# Altium schematic symbol library ICs_Control.SchLib: 37 symbols (part 4 of 6)
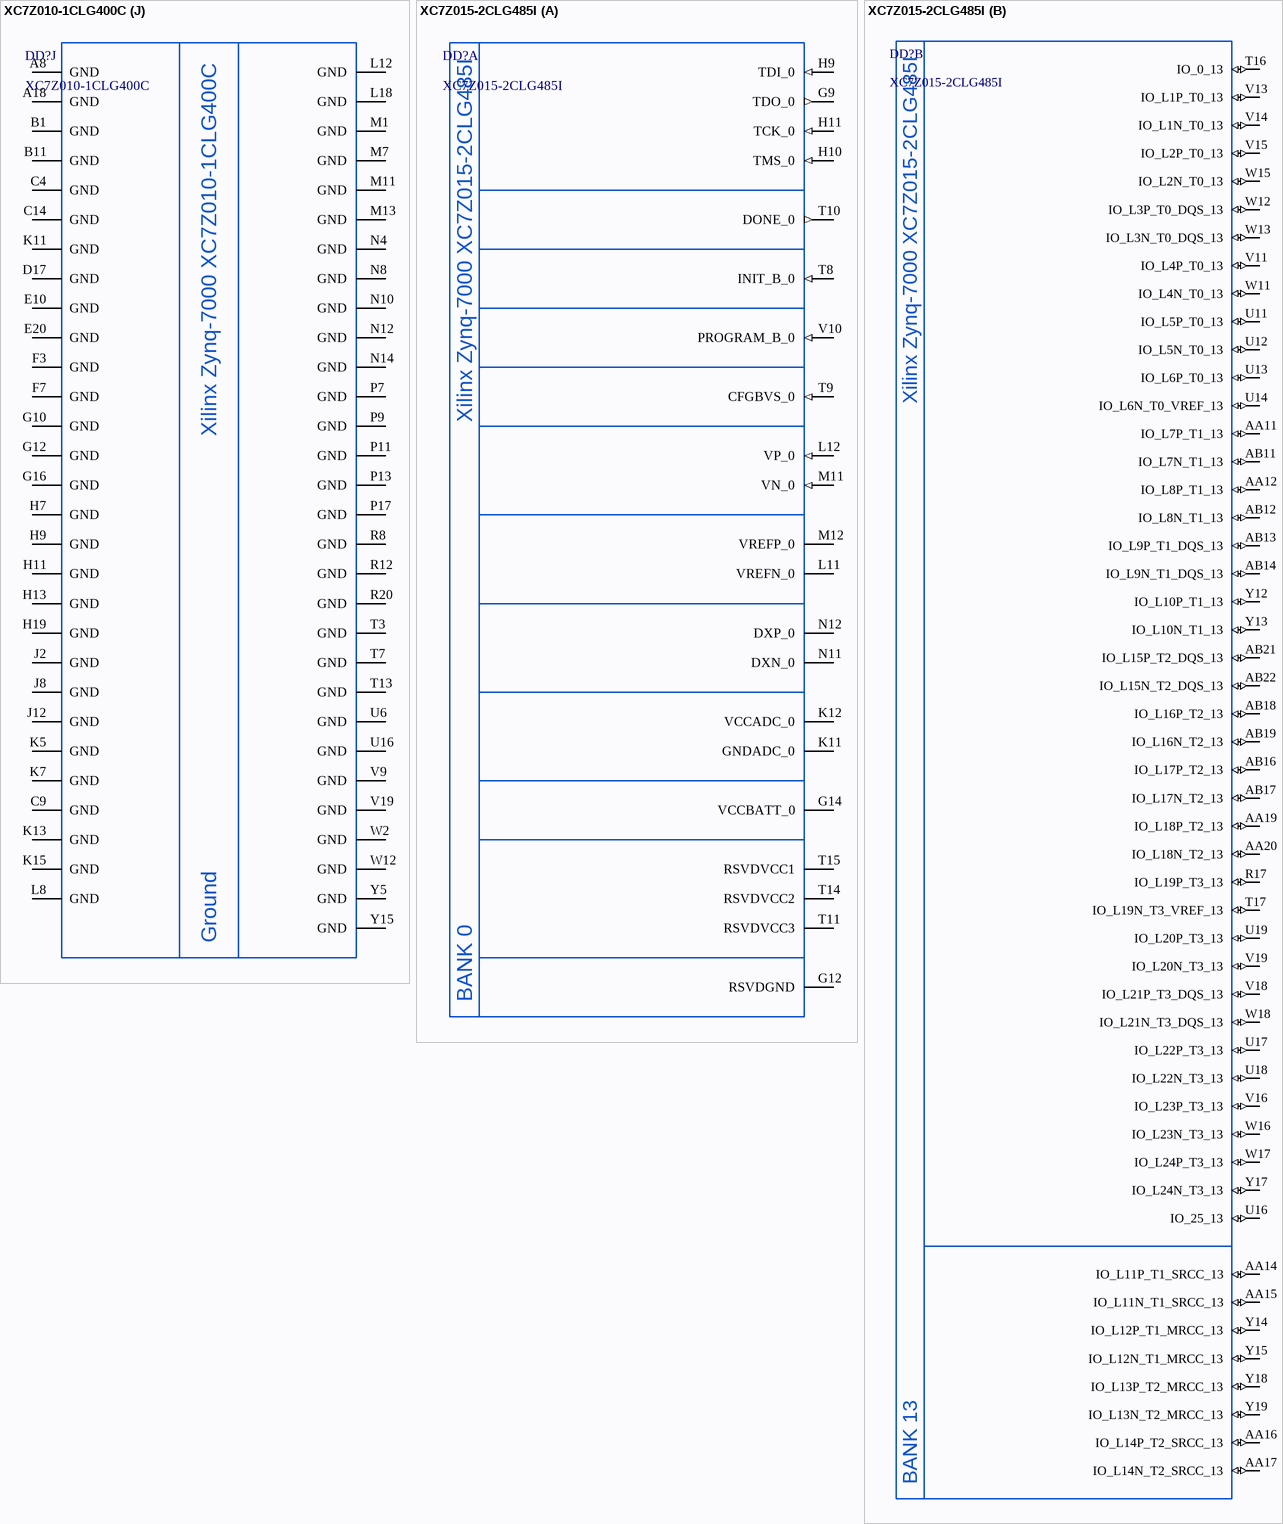
[diagram p80: symbols XC7Z010-1CLG400C to XC7Z015-2CLG485I]

## XC7Z010-1CLG400C
designator DD?
Zynq-7000 Series SoC, Speed Grade 1; Manufacturer: Xilinx; Speed Grade: -1; ItemType: IC; Package: CSPBGA-400; PartNumber: XC7Z010-1CLG400C; Marking: XC7Z010; ItemSubType: SoC; Mounting: SMD
footprint CLG400_XC7Z010 (CLG400 Package for Zynq-7000 Series SoC)
part A pins: F6 TDO_0 (out), F9 TCK_0 (in), F10 RSVDGND, F11 VCCBATT_0 (power), G6 TDI_0 (in), J6 TMS_0 (in), J9 VCCADC_0 (power), J10 GNDADC_0, K9 VP_0 (in), K10 VREFN_0, L6 PROGRAM_B_0 (in), L9 VREFP_0, L10 VN_0 (in), M6 CFGBVS_0 (in), M9 DXP_0, M10 DXN_0, N6 RSVDVCC3 (power), R6 RSVDVCC2 (power), R10 INIT_B_0 (in), R11 DONE_0 (out), T6 RSVDVCC1 (power)
part B pins: T5 NC (hiz), T9 NC (hiz), U5 NC (hiz), U7 NC (hiz), U8 NC (hiz), U9 NC (hiz), U10 NC (hiz), V5 NC (hiz), V6 NC (hiz), V7 NC (hiz), V8 NC (hiz), V10 NC (hiz), V11 NC (hiz), W6 NC (hiz), W8 NC (hiz), W9 NC (hiz), W10 NC (hiz), W11 NC (hiz), Y6 NC (hiz), Y7 NC (hiz), Y8 NC (hiz), Y9 NC (hiz), Y11 NC (hiz), Y12 NC (hiz), Y13 NC (hiz)
part C pins: N17 IO_L23P_T3_34 (io), N18 IO_L13P_T2_MRCC_34 (io), N20 IO_L14P_T2_SRCC_34 (io), P14 IO_L6P_T0_34 (io), P15 IO_L24P_T3_34 (io), P16 IO_L24N_T3_34 (io), P18 IO_L23N_T3_34 (io), P19 IO_L13N_T2_MRCC_34 (io), P20 IO_L14N_T2_SRCC_34 (io), R14 IO_L6N_T0_VREF_34 (io), R16 IO_L19P_T3_34 (io), R17 IO_L19N_T3_VREF_34 (io), R18 IO_L20N_T3_34 (io), R19 IO_0_34 (io), T10 IO_L1N_T0_34 (io), T11 IO_L1P_T0_34 (io), T12 IO_L2P_T0_34 (io), T14 IO_L5P_T0_34 (io), T15 IO_L5N_T0_34 (io), T16 IO_L9P_T1_DQS_34 (io), T17 IO_L20P_T3_34 (io), T19 IO_25_34 (io), T20 IO_L15P_T2_DQS_34 (io), U12 IO_L2N_T0_34 (io), U13 IO_L3P_T0_DQS_PUDC_B_34 (io), U14 IO_L11P_T1_SRCC_34 (io), U15 IO_L11N_T1_SRCC_34 (io), U17 IO_L9N_T1_DQS_34 (io), U18 IO_L12P_T1_MRCC_34 (io), U19 IO_L12N_T1_MRCC_34 (io), U20 IO_L15N_T2_DQS_34 (io), V12 IO_L4P_T0_34 (io), V13 IO_L3N_T0_DQS_34 (io), V15 IO_L10P_T1_34 (io), V16 IO_L18P_T2_34 (io), V17 IO_L21P_T3_DQS_34 (io), V18 IO_L21N_T3_DQS_34 (io), V20 IO_L16P_T2_34 (io), W13 IO_L4N_T0_34 (io), W14 IO_L8P_T1_34 (io), W15 IO_L10N_T1_34 (io), W16 IO_L18N_T2_34 (io), W18 IO_L22P_T3_34 (io), W19 IO_L22N_T3_34 (io), W20 IO_L16N_T2_34 (io), Y14 IO_L8N_T1_34 (io), Y16 IO_L7P_T1_34 (io), Y17 IO_L7N_T1_34 (io), Y18 IO_L17P_T2_34 (io), Y19 IO_L17N_T2_34 (io)
part D pins: A20 IO_L2N_T0_AD8N_35 (io), B19 IO_L2P_T0_AD8P_35 (io), B20 IO_L1N_T0_AD0N_35 (io), C20 IO_L1P_T0_AD0P_35 (io), D18 IO_L3N_T0_DQS_AD1N_35 (io), D19 IO_L4P_T0_35 (io), D20 IO_L4N_T0_35 (io), E17 IO_L3P_T0_DQS_AD1P_35 (io), E18 IO_L5P_T0_AD9P_35 (io), E19 IO_L5N_T0_AD9N_35 (io), F16 IO_L6P_T0_35 (io), F17 IO_L6N_T0_VREF_35 (io), F19 IO_L15P_T2_DQS_AD12P_35 (io), F20 IO_L15N_T2_DQS_AD12N_35 (io), G14 IO_0_35 (io), G15 IO_L19N_T3_VREF_35 (io), G17 IO_L16P_T2_35 (io), G18 IO_L16N_T2_35 (io), G19 IO_L18P_T2_AD13P_35 (io), G20 IO_L18N_T2_AD13N_35 (io), H15 IO_L19P_T3_35 (io), H16 IO_L13P_T2_MRCC_35 (io), H17 IO_L13N_T2_MRCC_35 (io), H18 IO_L14N_T2_AD4N_SRCC_35 (io), H20 IO_L17N_T2_AD5N_35 (io), J14 IO_L20N_T3_AD6N_35 (io), J15 IO_25_35 (io), J16 IO_L24N_T3_AD15N_35 (io), J18 IO_L14P_T2_AD4P_SRCC_35 (io), J19 IO_L10N_T1_AD11N_35 (io), J20 IO_L17P_T2_AD5P_35 (io), K14 IO_L20P_T3_AD6P_35 (io), K16 IO_L24P_T3_AD15P_35 (io), K17 IO_L12P_T1_MRCC_35 (io), K18 IO_L12N_T1_MRCC_35 (io), K19 IO_L10P_T1_AD11P_35 (io), L14 IO_L22P_T3_AD7P_35 (io), L15 IO_L22N_T3_AD7N_35 (io), L16 IO_L11P_T1_SRCC_35 (io), L17 IO_L11N_T1_SRCC_35 (io), L19 IO_L9P_T1_DQS_AD3P_35 (io), L20 IO_L9N_T1_DQS_AD3N_35 (io), M14 IO_L23P_T3_35 (io), M15 IO_L23N_T3_35 (io), M17 IO_L8P_T1_AD10P_35 (io), M18 IO_L8N_T1_AD10N_35 (io), M19 IO_L7P_T1_AD2P_35 (io), M20 IO_L7N_T1_AD2N_35 (io), N15 IO_L21P_T3_DQS_AD14P_35 (io), N16 IO_L21N_T3_DQS_AD14N_35 (io)
part E pins: A5 PS_MIO6_500 (io), A6 PS_MIO5_500 (io), A7 PS_MIO1_500 (io), B5 PS_MIO9_500 (io), B7 PS_MIO4_500 (io), B8 PS_MIO2_500 (io), C5 PS_MIO14_500 (io), C6 PS_MIO11_500 (io), C7 PS_POR_B_500 (out), C8 PS_MIO15_500 (io), D5 PS_MIO8_500 (io), D6 PS_MIO3_500 (io), D8 PS_MIO7_500 (io), D9 PS_MIO12_500 (io), E6 PS_MIO0_500 (io), E7 PS_CLK_500 (in), E8 PS_MIO13_500 (io), E9 PS_MIO10_500 (io)
part F pins: A9 PS_MIO43_501 (io), A10 PS_MIO37_501 (io), A11 PS_MIO36_501 (io), A12 PS_MIO34_501 (io), A14 PS_MIO32_501 (io), A15 PS_MIO26_501 (io), A16 PS_MIO24_501 (io), A17 PS_MIO20_501 (io), A19 PS_MIO16_501 (io), B9 PS_MIO51_501 (io), B10 PS_SRST_B_501 (in), B12 PS_MIO48_501 (io), B13 PS_MIO50_501 (io), B14 PS_MIO47_501 (io), B15 PS_MIO45_501 (io), B17 PS_MIO22_501 (io), B18 PS_MIO18_501 (io), C10 PS_MIO52_501 (io), C11 PS_MIO53_501 (io), C12 PS_MIO49_501 (io), C13 PS_MIO29_501 (io), C15 PS_MIO30_501 (io), C16 PS_MIO28_501 (io), C17 PS_MIO41_501 (io), C18 PS_MIO39_501 (io), D10 PS_MIO19_501 (io), D11 PS_MIO23_501 (io), D13 PS_MIO27_501 (io), D14 PS_MIO40_501 (io), D15 PS_MIO33_501 (io), D16 PS_MIO46_501 (io), E11 PS_MIO_VREF_501, E12 PS_MIO42_501 (io), E13 PS_MIO38_501 (io), E14 PS_MIO17_501 (io), E16 PS_MIO31_501 (io), F12 PS_MIO35_501 (io), F13 PS_MIO44_501 (io), F14 PS_MIO21_501 (io), F15 PS_MIO25_501 (io)
part G pins: A2 PS_DDR_DQ2_502 (io), A4 PS_DDR_DQ3_502 (io), B2 PS_DDR_DQS_N0_502 (io), B3 PS_DDR_DQ1_502 (io), C1 PS_DDR_DQ6_502 (io), C2 PS_DDR_DQS_P0_502 (io), C3 PS_DDR_DQ0_502 (io), D1 PS_DDR_DQ5_502 (io), D3 PS_DDR_DQ4_502 (io), E1 PS_DDR_DQ7_502 (io), E2 PS_DDR_DQ8_502 (io), E3 PS_DDR_DQ9_502 (io), F2 PS_DDR_DQS_N1_502 (io), G2 PS_DDR_DQS_P1_502 (io), G3 PS_DDR_DQ10_502 (io), H1 PS_DDR_DQ14_502 (io), H2 PS_DDR_DQ13_502 (io), H3 PS_DDR_DQ11_502 (io), J1 PS_DDR_DQ15_502 (io), J3 PS_DDR_DQ12_502 (io), P1 PS_DDR_DQ16_502 (io), P3 PS_DDR_DQ17_502 (io), R1 PS_DDR_DQ19_502 (io), R2 PS_DDR_DQS_P2_502 (io), R3 PS_DDR_DQ18_502 (io), T2 PS_DDR_DQS_N2_502 (io), T4 PS_DDR_DQ20_502 (io), U2 PS_DDR_DQ22_502 (io), U3 PS_DDR_DQ23_502 (io), U4 PS_DDR_DQ21_502 (io), V1 PS_DDR_DQ24_502 (io), V2 PS_DDR_DQ30_502 (io), V3 PS_DDR_DQ31_502 (io), W1 PS_DDR_DQ26_502 (io), W3 PS_DDR_DQ29_502 (io), W4 PS_DDR_DQS_N3_502 (io), W5 PS_DDR_DQS_P3_502 (io), Y2 PS_DDR_DQ28_502 (io), Y3 PS_DDR_DQ25_502 (io), Y4 PS_DDR_DQ27_502 (io)
part H pins: A1 PS_DDR_DM0_502 (io), B4 PS_DDR_DRST_B_502 (io), D4 PS_DDR_A13_502 (io), E4 PS_DDR_A12_502 (io), F1 PS_DDR_DM1_502 (io), F4 PS_DDR_A14_502 (io), F5 PS_DDR_A10_502 (io), G4 PS_DDR_A11_502 (io), G5 PS_DDR_VRN_502 (io), H5 PS_DDR_VRP_502 (io), H6 PS_DDR_VREF0_502, J4 PS_DDR_A9_502 (io), J5 PS_DDR_BA2_502 (io), K1 PS_DDR_A8_502 (io), K2 PS_DDR_A1_502 (io), K3 PS_DDR_A3_502 (io), K4 PS_DDR_A7_502 (io), L1 PS_DDR_A5_502 (io), L2 PS_DDR_CKP_502 (io), L4 PS_DDR_A6_502 (io), L5 PS_DDR_BA0_502 (io), M2 PS_DDR_CKN_502 (io), M3 PS_DDR_A2_502 (io), M4 PS_DDR_A4_502 (io), M5 PS_DDR_WE_B_502 (io), N1 PS_DDR_CS_B_502 (io), N2 PS_DDR_A0_502 (io), N3 PS_DDR_CKE_502 (io), N5 PS_DDR_ODT_502 (io), P4 PS_DDR_RAS_B_502 (io), P5 PS_DDR_CAS_B_502 (io), P6 PS_DDR_VREF1_502, R4 PS_DDR_BA1_502 (io), T1 PS_DDR_DM2_502 (io), Y1 PS_DDR_DM3_502 (io)
part I pins: A3 VCCO_DDR_502 (power), A13 VCCO_MIO1_501 (power), B6 VCCO_MIO0_500 (power), B16 VCCO_MIO1_501 (power), C19 VCCO_35 (power), D2 VCCO_DDR_502 (power), D7 VCCO_MIO0_500 (power), D12 VCCO_MIO1_501 (power), E5 VCCO_DDR_502 (power), E15 VCCO_MIO1_501 (power), F8 VCCPAUX (power), F18 VCCO_35 (power), G1 VCCO_DDR_502 (power), G7 VCCPINT (power), G8 VCCPLL (power), G9 VCCPAUX (power), G11 VCCBRAM (power), G13 VCCINT (power), H4 VCCO_DDR_502 (power), H8 VCCPAUX (power), H10 VCCBRAM (power), H12 VCCINT (power), H14 VCCO_35 (power), J7 VCCPINT (power), J11 VCCAUX (power), J13 VCCINT (power), J17 VCCO_35 (power), K6 VCCO_0 (power), K8 VCCPAUX (power), K12 VCCINT (power), K20 VCCO_35 (power), L3 VCCO_DDR_502 (power), L7 VCCPINT (power), L11 VCCAUX (power), L13 VCCINT (power), M8 VCCPAUX (power), M12 VCCINT (power), M16 VCCO_35 (power), N7 VCCPINT (power), N9 VCCAUX (power), N11 VCCAUX (power), N13 VCCINT (power), N19 VCCO_34 (power), P2 VCCO_DDR_502 (power), P8 VCCPINT (power), P10 VCCAUX (power), P12 VCCINT (power), R5 VCCO_DDR_502 (power), R7 VCCPINT (power), R9 VCCAUX (power), R13 VCCINT (power), R15 VCCO_34 (power), T8 VCCO_13 (power), T18 VCCO_34 (power), U1 VCCO_DDR_502 (power), U11 VCCO_13 (power), V4 VCCO_DDR_502 (power), V14 VCCO_34 (power), W7 VCCO_13 (power), W17 VCCO_34 (power), Y10 VCCO_13 (power), Y20 VCCO_34 (power)
part J pins: A8 GND, A18 GND, B1 GND, B11 GND, C4 GND, C9 GND, C14 GND, D17 GND, E10 GND, E20 GND, F3 GND, F7 GND, G10 GND, G12 GND, G16 GND, H7 GND, H9 GND, H11 GND, H13 GND, H19 GND, J2 GND, J8 GND, J12 GND, K5 GND, K7 GND, K11 GND, K13 GND, K15 GND, L8 GND, L12 GND, L18 GND, M1 GND, M7 GND, M11 GND, M13 GND, N4 GND, N8 GND, N10 GND, N12 GND, N14 GND, P7 GND, P9 GND, P11 GND, P13 GND, P17 GND, R8 GND, R12 GND, R20 GND, T3 GND, T7 GND, T13 GND, U6 GND, U16 GND, V9 GND, V19 GND, W2 GND, W12 GND, Y5 GND, Y15 GND
part A text: Xilinx Zynq-7000 XC7Z010-1CLG400C; BANK 0
part B text: Xilinx Zynq-7000 XC7Z010-1CLG400C; Not Connected Pins
part C text: Xilinx Zynq-7000 XC7Z010-1CLG400C; BANK 34
part D text: Xilinx Zynq-7000 XC7Z010-1CLG400C; BANK 35
part E text: Xilinx Zynq-7000 XC7Z010-1CLG400C; BANK 500
part F text: Xilinx Zynq-7000 XC7Z010-1CLG400C; BANK 501
part G text: Xilinx Zynq-7000 XC7Z010-1CLG400C; BANK 502
part H text: Xilinx Zynq-7000 XC7Z010-1CLG400C; BANK 502
part I text: PL/XADC Power; PS Power; Xilinx Zynq-7000 XC7Z010-1CLG400C; Power
part J text: Xilinx Zynq-7000 XC7Z010-1CLG400C; Ground

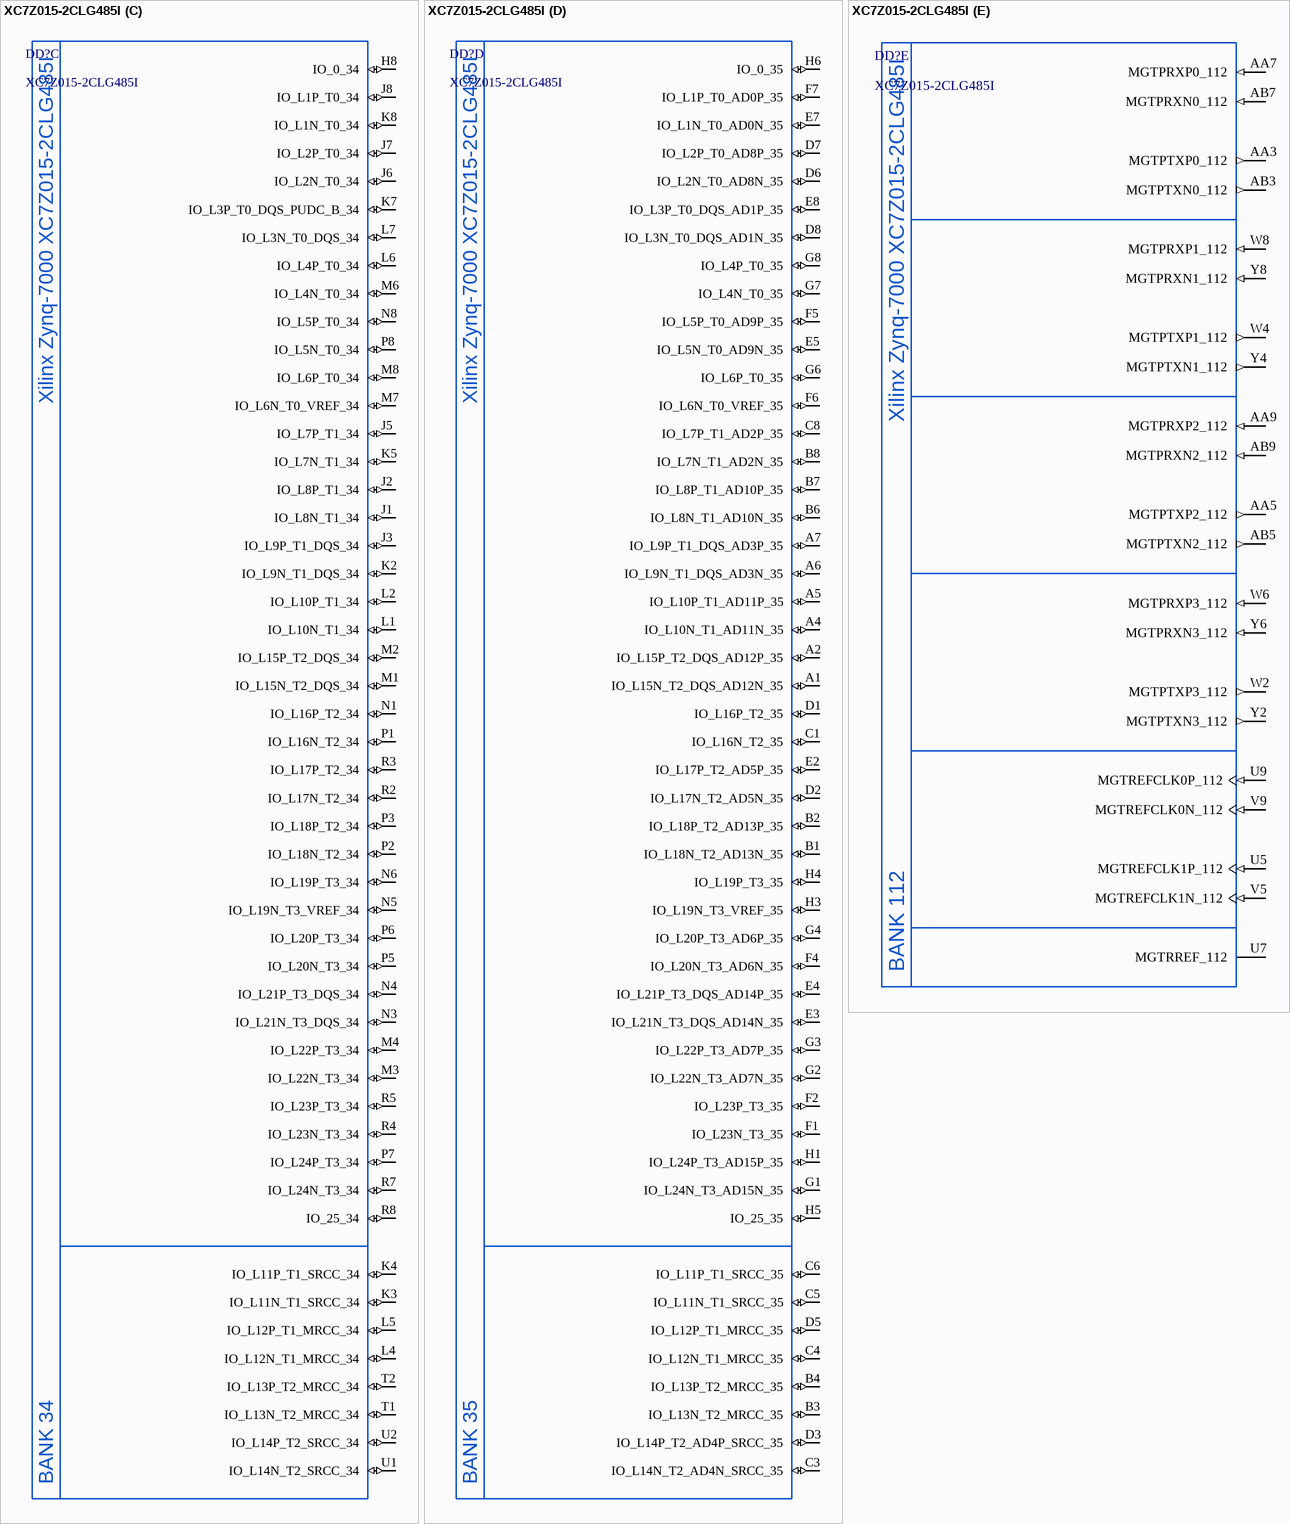
[diagram p43: symbol XC7Z015-2CLG485I]

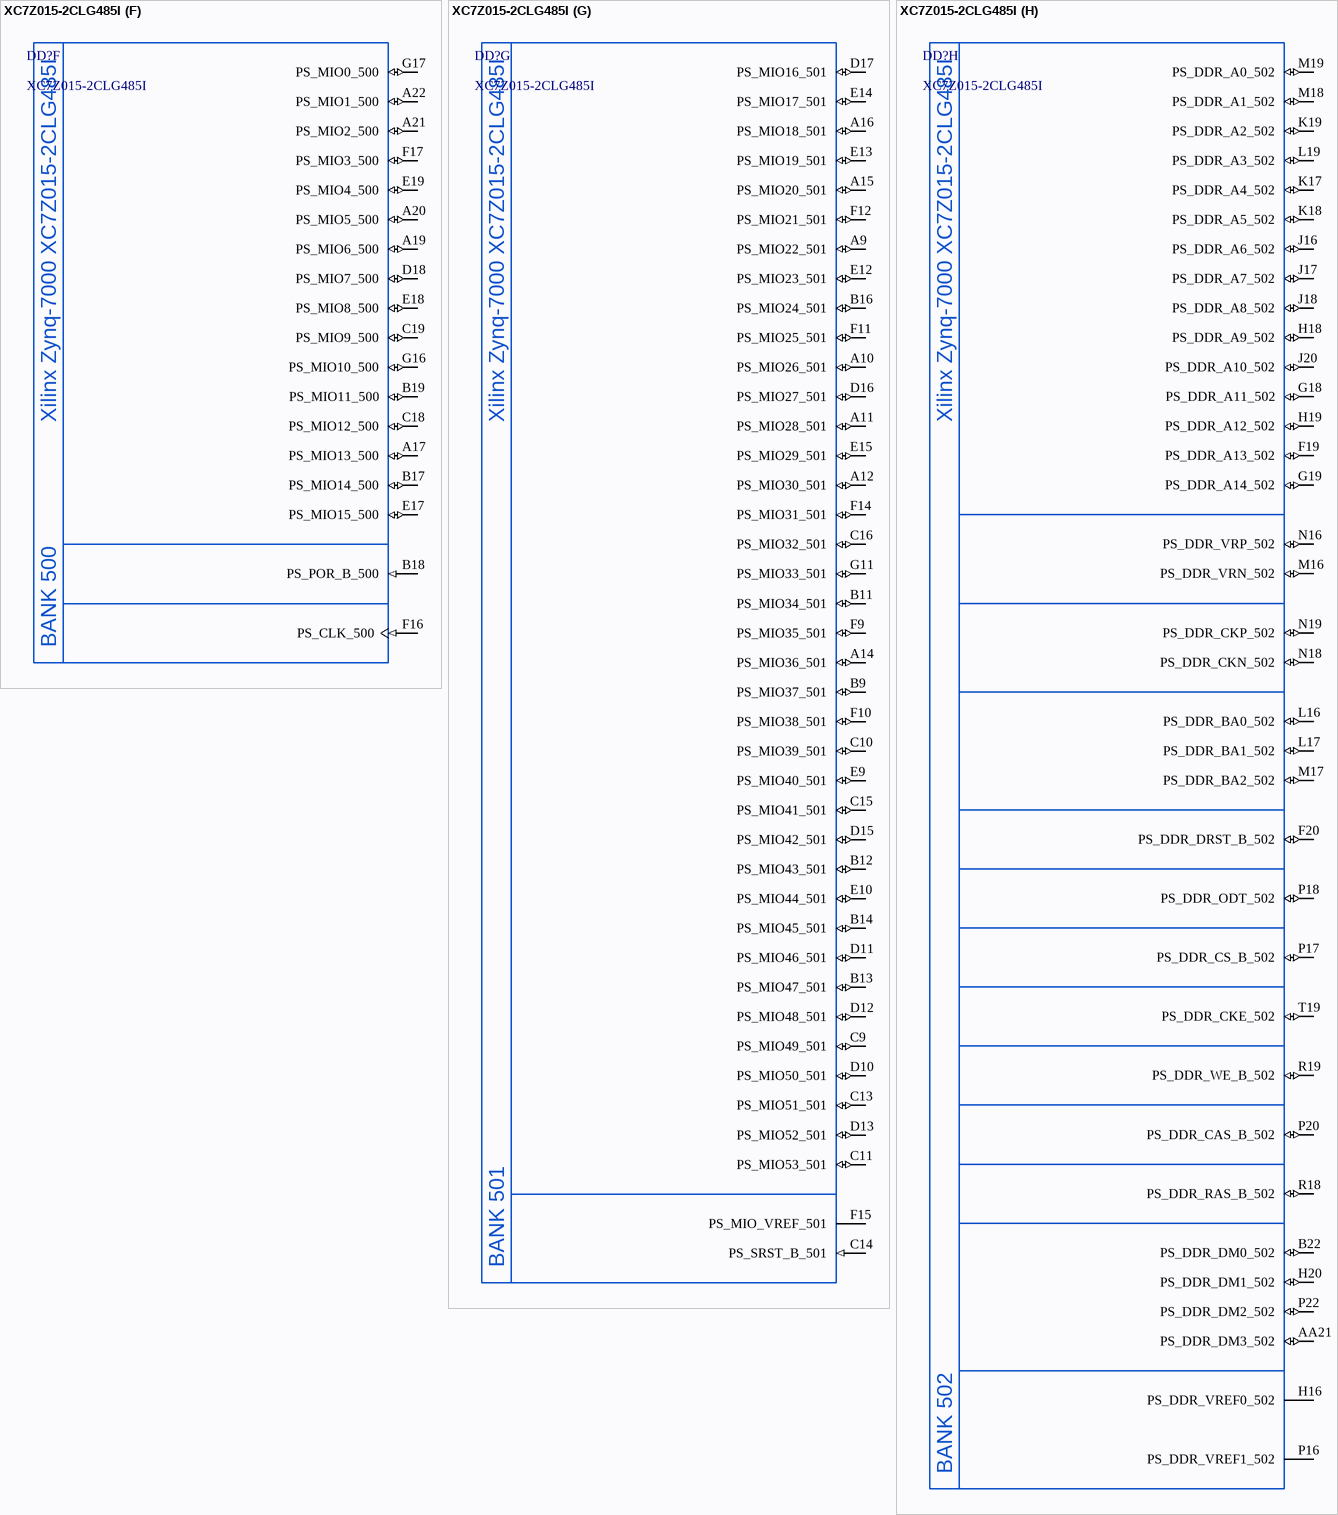
[diagram p44: symbol XC7Z015-2CLG485I]

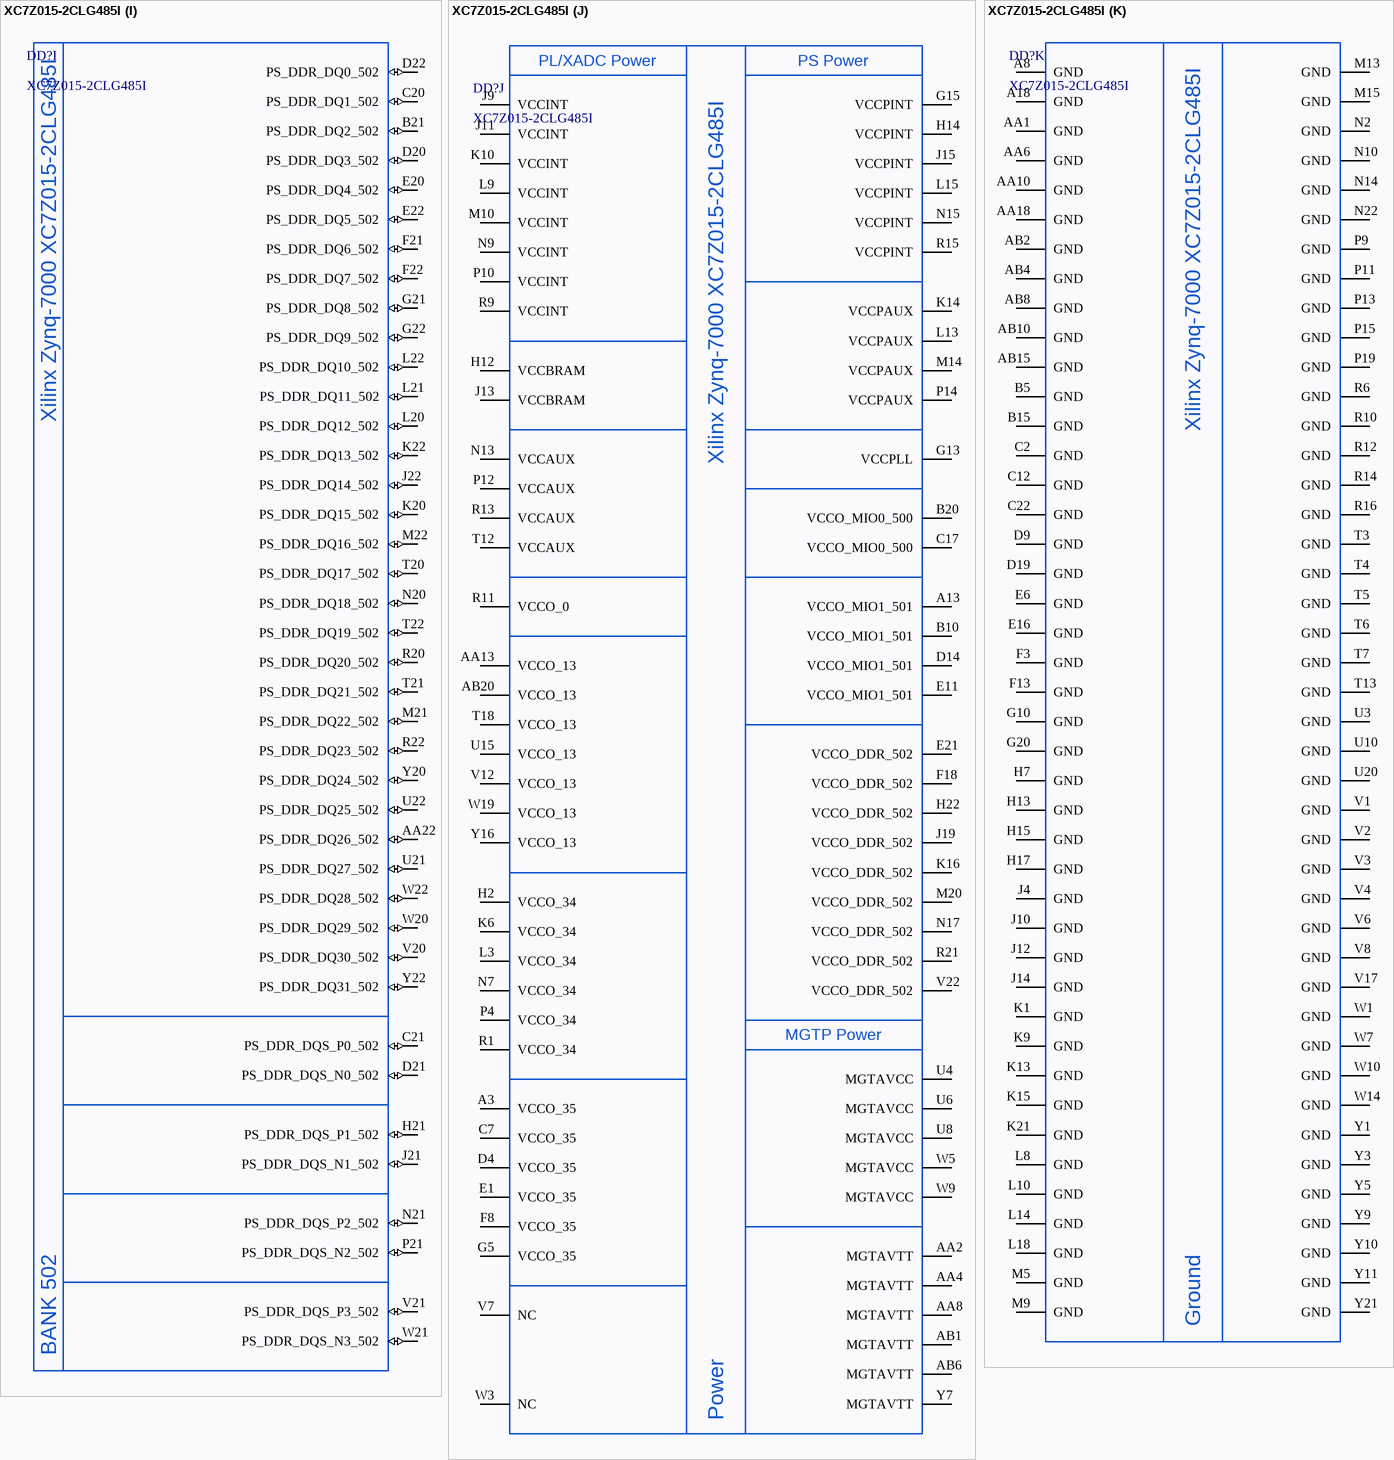
[diagram p45: symbol XC7Z015-2CLG485I]

## XC7Z015-2CLG485I
designator DD?
Zynq-7000 Series SoC, Speed Grade 2; Manufacturer: Xilinx; Speed Grade: -2; ItemType: IC; Package: CSBGA-485; PartNumber: XC7Z015-2CLG485I; Marking: XC7Z015; ItemSubType: SoC; Mounting: SMD
footprint CLG485_XC7Z015 (CLG484/CLG485 484-Leads, Body 19.00x19.00mmx1.60mm, Pitch 0.80mm)
part A pins: G9 TDO_0 (out), G12 RSVDGND, G14 VCCBATT_0 (power), H9 TDI_0 (in), H10 TMS_0 (in), H11 TCK_0 (in), K11 GNDADC_0, K12 VCCADC_0 (power), L11 VREFN_0, L12 VP_0 (in), M11 VN_0 (in), M12 VREFP_0, N11 DXN_0, N12 DXP_0, T8 INIT_B_0 (in), T9 CFGBVS_0 (in), T10 DONE_0 (out), T11 RSVDVCC3 (power), T14 RSVDVCC2 (power), T15 RSVDVCC1 (power), V10 PROGRAM_B_0 (in)
part B pins: AA11 IO_L7P_T1_13 (io), AA12 IO_L8P_T1_13 (io), AA14 IO_L11P_T1_SRCC_13 (io), AA15 IO_L11N_T1_SRCC_13 (io), AA16 IO_L14P_T2_SRCC_13 (io), AA17 IO_L14N_T2_SRCC_13 (io), AA19 IO_L18P_T2_13 (io), AA20 IO_L18N_T2_13 (io), AB11 IO_L7N_T1_13 (io), AB12 IO_L8N_T1_13 (io), AB13 IO_L9P_T1_DQS_13 (io), AB14 IO_L9N_T1_DQS_13 (io), AB16 IO_L17P_T2_13 (io), AB17 IO_L17N_T2_13 (io), AB18 IO_L16P_T2_13 (io), AB19 IO_L16N_T2_13 (io), AB21 IO_L15P_T2_DQS_13 (io), AB22 IO_L15N_T2_DQS_13 (io), R17 IO_L19P_T3_13 (io), T16 IO_0_13 (io), T17 IO_L19N_T3_VREF_13 (io), U11 IO_L5P_T0_13 (io), U12 IO_L5N_T0_13 (io), U13 IO_L6P_T0_13 (io), U14 IO_L6N_T0_VREF_13 (io), U16 IO_25_13 (io), U17 IO_L22P_T3_13 (io), U18 IO_L22N_T3_13 (io), U19 IO_L20P_T3_13 (io), V11 IO_L4P_T0_13 (io), V13 IO_L1P_T0_13 (io), V14 IO_L1N_T0_13 (io), V15 IO_L2P_T0_13 (io), V16 IO_L23P_T3_13 (io), V18 IO_L21P_T3_DQS_13 (io), V19 IO_L20N_T3_13 (io), W11 IO_L4N_T0_13 (io), W12 IO_L3P_T0_DQS_13 (io), W13 IO_L3N_T0_DQS_13 (io), W15 IO_L2N_T0_13 (io), W16 IO_L23N_T3_13 (io), W17 IO_L24P_T3_13 (io), W18 IO_L21N_T3_DQS_13 (io), Y12 IO_L10P_T1_13 (io), Y13 IO_L10N_T1_13 (io), Y14 IO_L12P_T1_MRCC_13 (io), Y15 IO_L12N_T1_MRCC_13 (io), Y17 IO_L24N_T3_13 (io), Y18 IO_L13P_T2_MRCC_13 (io), Y19 IO_L13N_T2_MRCC_13 (io)
part C pins: H8 IO_0_34 (io), J1 IO_L8N_T1_34 (io), J2 IO_L8P_T1_34 (io), J3 IO_L9P_T1_DQS_34 (io), J5 IO_L7P_T1_34 (io), J6 IO_L2N_T0_34 (io), J7 IO_L2P_T0_34 (io), J8 IO_L1P_T0_34 (io), K2 IO_L9N_T1_DQS_34 (io), K3 IO_L11N_T1_SRCC_34 (io), K4 IO_L11P_T1_SRCC_34 (io), K5 IO_L7N_T1_34 (io), K7 IO_L3P_T0_DQS_PUDC_B_34 (io), K8 IO_L1N_T0_34 (io), L1 IO_L10N_T1_34 (io), L2 IO_L10P_T1_34 (io), L4 IO_L12N_T1_MRCC_34 (io), L5 IO_L12P_T1_MRCC_34 (io), L6 IO_L4P_T0_34 (io), L7 IO_L3N_T0_DQS_34 (io), M1 IO_L15N_T2_DQS_34 (io), M2 IO_L15P_T2_DQS_34 (io), M3 IO_L22N_T3_34 (io), M4 IO_L22P_T3_34 (io), M6 IO_L4N_T0_34 (io), M7 IO_L6N_T0_VREF_34 (io), M8 IO_L6P_T0_34 (io), N1 IO_L16P_T2_34 (io), N3 IO_L21N_T3_DQS_34 (io), N4 IO_L21P_T3_DQS_34 (io), N5 IO_L19N_T3_VREF_34 (io), N6 IO_L19P_T3_34 (io), N8 IO_L5P_T0_34 (io), P1 IO_L16N_T2_34 (io), P2 IO_L18N_T2_34 (io), P3 IO_L18P_T2_34 (io), P5 IO_L20N_T3_34 (io), P6 IO_L20P_T3_34 (io), P7 IO_L24P_T3_34 (io), P8 IO_L5N_T0_34 (io), R2 IO_L17N_T2_34 (io), R3 IO_L17P_T2_34 (io), R4 IO_L23N_T3_34 (io), R5 IO_L23P_T3_34 (io), R7 IO_L24N_T3_34 (io), R8 IO_25_34 (io), T1 IO_L13N_T2_MRCC_34 (io), T2 IO_L13P_T2_MRCC_34 (io), U1 IO_L14N_T2_SRCC_34 (io), U2 IO_L14P_T2_SRCC_34 (io)
part D pins: A1 IO_L15N_T2_DQS_AD12N_35 (io), A2 IO_L15P_T2_DQS_AD12P_35 (io), A4 IO_L10N_T1_AD11N_35 (io), A5 IO_L10P_T1_AD11P_35 (io), A6 IO_L9N_T1_DQS_AD3N_35 (io), A7 IO_L9P_T1_DQS_AD3P_35 (io), B1 IO_L18N_T2_AD13N_35 (io), B2 IO_L18P_T2_AD13P_35 (io), B3 IO_L13N_T2_MRCC_35 (io), B4 IO_L13P_T2_MRCC_35 (io), B6 IO_L8N_T1_AD10N_35 (io), B7 IO_L8P_T1_AD10P_35 (io), B8 IO_L7N_T1_AD2N_35 (io), C1 IO_L16N_T2_35 (io), C3 IO_L14N_T2_AD4N_SRCC_35 (io), C4 IO_L12N_T1_MRCC_35 (io), C5 IO_L11N_T1_SRCC_35 (io), C6 IO_L11P_T1_SRCC_35 (io), C8 IO_L7P_T1_AD2P_35 (io), D1 IO_L16P_T2_35 (io), D2 IO_L17N_T2_AD5N_35 (io), D3 IO_L14P_T2_AD4P_SRCC_35 (io), D5 IO_L12P_T1_MRCC_35 (io), D6 IO_L2N_T0_AD8N_35 (io), D7 IO_L2P_T0_AD8P_35 (io), D8 IO_L3N_T0_DQS_AD1N_35 (io), E2 IO_L17P_T2_AD5P_35 (io), E3 IO_L21N_T3_DQS_AD14N_35 (io), E4 IO_L21P_T3_DQS_AD14P_35 (io), E5 IO_L5N_T0_AD9N_35 (io), E7 IO_L1N_T0_AD0N_35 (io), E8 IO_L3P_T0_DQS_AD1P_35 (io), F1 IO_L23N_T3_35 (io), F2 IO_L23P_T3_35 (io), F4 IO_L20N_T3_AD6N_35 (io), F5 IO_L5P_T0_AD9P_35 (io), F6 IO_L6N_T0_VREF_35 (io), F7 IO_L1P_T0_AD0P_35 (io), G1 IO_L24N_T3_AD15N_35 (io), G2 IO_L22N_T3_AD7N_35 (io), G3 IO_L22P_T3_AD7P_35 (io), G4 IO_L20P_T3_AD6P_35 (io), G6 IO_L6P_T0_35 (io), G7 IO_L4N_T0_35 (io), G8 IO_L4P_T0_35 (io), H1 IO_L24P_T3_AD15P_35 (io), H3 IO_L19N_T3_VREF_35 (io), H4 IO_L19P_T3_35 (io), H5 IO_25_35 (io), H6 IO_0_35 (io)
part E pins: AA3 MGTPTXP0_112 (out), AA5 MGTPTXP2_112 (out), AA7 MGTPRXP0_112 (in), AA9 MGTPRXP2_112 (in), AB3 MGTPTXN0_112 (out), AB5 MGTPTXN2_112 (out), AB7 MGTPRXN0_112 (in), AB9 MGTPRXN2_112 (in), U5 MGTREFCLK1P_112 (in), U7 MGTRREF_112, U9 MGTREFCLK0P_112 (in), V5 MGTREFCLK1N_112 (in), V9 MGTREFCLK0N_112 (in), W2 MGTPTXP3_112 (out), W4 MGTPTXP1_112 (out), W6 MGTPRXP3_112 (in), W8 MGTPRXP1_112 (in), Y2 MGTPTXN3_112 (out), Y4 MGTPTXN1_112 (out), Y6 MGTPRXN3_112 (in), Y8 MGTPRXN1_112 (in)
part F pins: A17 PS_MIO13_500 (io), A19 PS_MIO6_500 (io), A20 PS_MIO5_500 (io), A21 PS_MIO2_500 (io), A22 PS_MIO1_500 (io), B17 PS_MIO14_500 (io), B18 PS_POR_B_500 (in), B19 PS_MIO11_500 (io), C18 PS_MIO12_500 (io), C19 PS_MIO9_500 (io), D18 PS_MIO7_500 (io), E17 PS_MIO15_500 (io), E18 PS_MIO8_500 (io), E19 PS_MIO4_500 (io), F16 PS_CLK_500 (in), F17 PS_MIO3_500 (io), G16 PS_MIO10_500 (io), G17 PS_MIO0_500 (io)
part G pins: A9 PS_MIO22_501 (io), A10 PS_MIO26_501 (io), A11 PS_MIO28_501 (io), A12 PS_MIO30_501 (io), A14 PS_MIO36_501 (io), A15 PS_MIO20_501 (io), A16 PS_MIO18_501 (io), B9 PS_MIO37_501 (io), B11 PS_MIO34_501 (io), B12 PS_MIO43_501 (io), B13 PS_MIO47_501 (io), B14 PS_MIO45_501 (io), B16 PS_MIO24_501 (io), C9 PS_MIO49_501 (io), C10 PS_MIO39_501 (io), C11 PS_MIO53_501 (io), C13 PS_MIO51_501 (io), C14 PS_SRST_B_501 (in), C15 PS_MIO41_501 (io), C16 PS_MIO32_501 (io), D10 PS_MIO50_501 (io), D11 PS_MIO46_501 (io), D12 PS_MIO48_501 (io), D13 PS_MIO52_501 (io), D15 PS_MIO42_501 (io), D16 PS_MIO27_501 (io), D17 PS_MIO16_501 (io), E9 PS_MIO40_501 (io), E10 PS_MIO44_501 (io), E12 PS_MIO23_501 (io), E13 PS_MIO19_501 (io), E14 PS_MIO17_501 (io), E15 PS_MIO29_501 (io), F9 PS_MIO35_501 (io), F10 PS_MIO38_501 (io), F11 PS_MIO25_501 (io), F12 PS_MIO21_501 (io), F14 PS_MIO31_501 (io), F15 PS_MIO_VREF_501, G11 PS_MIO33_501 (io)
part H pins: AA21 PS_DDR_DM3_502 (io), B22 PS_DDR_DM0_502 (io), F19 PS_DDR_A13_502 (io), F20 PS_DDR_DRST_B_502 (io), G18 PS_DDR_A11_502 (io), G19 PS_DDR_A14_502 (io), H16 PS_DDR_VREF0_502, H18 PS_DDR_A9_502 (io), H19 PS_DDR_A12_502 (io), H20 PS_DDR_DM1_502 (io), J16 PS_DDR_A6_502 (io), J17 PS_DDR_A7_502 (io), J18 PS_DDR_A8_502 (io), J20 PS_DDR_A10_502 (io), K17 PS_DDR_A4_502 (io), K18 PS_DDR_A5_502 (io), K19 PS_DDR_A2_502 (io), L16 PS_DDR_BA0_502 (io), L17 PS_DDR_BA1_502 (io), L19 PS_DDR_A3_502 (io), M16 PS_DDR_VRN_502 (io), M17 PS_DDR_BA2_502 (io), M18 PS_DDR_A1_502 (io), M19 PS_DDR_A0_502 (io), N16 PS_DDR_VRP_502 (io), N18 PS_DDR_CKN_502 (io), N19 PS_DDR_CKP_502 (io), P16 PS_DDR_VREF1_502, P17 PS_DDR_CS_B_502 (io), P18 PS_DDR_ODT_502 (io), P20 PS_DDR_CAS_B_502 (io), P22 PS_DDR_DM2_502 (io), R18 PS_DDR_RAS_B_502 (io), R19 PS_DDR_WE_B_502 (io), T19 PS_DDR_CKE_502 (io)
part I pins: AA22 PS_DDR_DQ26_502 (io), B21 PS_DDR_DQ2_502 (io), C20 PS_DDR_DQ1_502 (io), C21 PS_DDR_DQS_P0_502 (io), D20 PS_DDR_DQ3_502 (io), D21 PS_DDR_DQS_N0_502 (io), D22 PS_DDR_DQ0_502 (io), E20 PS_DDR_DQ4_502 (io), E22 PS_DDR_DQ5_502 (io), F21 PS_DDR_DQ6_502 (io), F22 PS_DDR_DQ7_502 (io), G21 PS_DDR_DQ8_502 (io), G22 PS_DDR_DQ9_502 (io), H21 PS_DDR_DQS_P1_502 (io), J21 PS_DDR_DQS_N1_502 (io), J22 PS_DDR_DQ14_502 (io), K20 PS_DDR_DQ15_502 (io), K22 PS_DDR_DQ13_502 (io), L20 PS_DDR_DQ12_502 (io), L21 PS_DDR_DQ11_502 (io), L22 PS_DDR_DQ10_502 (io), M21 PS_DDR_DQ22_502 (io), M22 PS_DDR_DQ16_502 (io), N20 PS_DDR_DQ18_502 (io), N21 PS_DDR_DQS_P2_502 (io), P21 PS_DDR_DQS_N2_502 (io), R20 PS_DDR_DQ20_502 (io), R22 PS_DDR_DQ23_502 (io), T20 PS_DDR_DQ17_502 (io), T21 PS_DDR_DQ21_502 (io), T22 PS_DDR_DQ19_502 (io), U21 PS_DDR_DQ27_502 (io), U22 PS_DDR_DQ25_502 (io), V20 PS_DDR_DQ30_502 (io), V21 PS_DDR_DQS_P3_502 (io), W20 PS_DDR_DQ29_502 (io), W21 PS_DDR_DQS_N3_502 (io), W22 PS_DDR_DQ28_502 (io), Y20 PS_DDR_DQ24_502 (io), Y22 PS_DDR_DQ31_502 (io)
part J pins: A3 VCCO_35 (power), A13 VCCO_MIO1_501 (power), AA2 MGTAVTT (power), AA4 MGTAVTT (power), AA8 MGTAVTT (power), AA13 VCCO_13 (power), AB1 MGTAVTT (power), AB6 MGTAVTT (power), AB20 VCCO_13 (power), B10 VCCO_MIO1_501 (power), B20 VCCO_MIO0_500 (power), C7 VCCO_35 (power), C17 VCCO_MIO0_500 (power), D4 VCCO_35 (power), D14 VCCO_MIO1_501 (power), E1 VCCO_35 (power), E11 VCCO_MIO1_501 (power), E21 VCCO_DDR_502 (power), F8 VCCO_35 (power), F18 VCCO_DDR_502 (power), G5 VCCO_35 (power), G13 VCCPLL (power), G15 VCCPINT (power), H2 VCCO_34 (power), H12 VCCBRAM (power), H14 VCCPINT (power), H22 VCCO_DDR_502 (power), J9 VCCINT (power), J11 VCCINT (power), J13 VCCBRAM (power), J15 VCCPINT (power), J19 VCCO_DDR_502 (power), K6 VCCO_34 (power), K10 VCCINT (power), K14 VCCPAUX (power), K16 VCCO_DDR_502 (power), L3 VCCO_34 (power), L9 VCCINT (power), L13 VCCPAUX (power), L15 VCCPINT (power), M10 VCCINT (power), M14 VCCPAUX (power), M20 VCCO_DDR_502 (power), N7 VCCO_34 (power), N9 VCCINT (power), N13 VCCAUX (power), N15 VCCPINT (power), N17 VCCO_DDR_502 (power), P4 VCCO_34 (power), P10 VCCINT (power), P12 VCCAUX (power), P14 VCCPAUX (power), R1 VCCO_34 (power), R9 VCCINT (power), R11 VCCO_0 (power), R13 VCCAUX (power), R15 VCCPINT (power), R21 VCCO_DDR_502 (power), T12 VCCAUX (power), T18 VCCO_13 (power), U4 MGTAVCC (power), U6 MGTAVCC (power), U8 MGTAVCC (power), U15 VCCO_13 (power), V7 NC (hiz), V12 VCCO_13 (power), V22 VCCO_DDR_502 (power), W3 NC (hiz), W5 MGTAVCC (power), W9 MGTAVCC (power), W19 VCCO_13 (power), Y7 MGTAVTT (power), Y16 VCCO_13 (power)
part K pins: A8 GND, A18 GND, AA1 GND, AA6 GND, AA10 GND, AA18 GND, AB2 GND, AB4 GND, AB8 GND, AB10 GND, AB15 GND, B5 GND, B15 GND, C2 GND, C12 GND, C22 GND, D9 GND, D19 GND, E6 GND, E16 GND, F3 GND, F13 GND, G10 GND, G20 GND, H7 GND, H13 GND, H15 GND, H17 GND, J4 GND, J10 GND, J12 GND, J14 GND, K1 GND, K9 GND, K13 GND, K15 GND, K21 GND, L8 GND, L10 GND, L14 GND, L18 GND, M5 GND, M9 GND, M13 GND, M15 GND, N2 GND, N10 GND, N14 GND, N22 GND, P9 GND, P11 GND, P13 GND, P15 GND, P19 GND, R6 GND, R10 GND, R12 GND, R14 GND, R16 GND, T3 GND, T4 GND, T5 GND, T6 GND, T7 GND, T13 GND, U3 GND, U10 GND, U20 GND, V1 GND, V2 GND, V3 GND, V4 GND, V6 GND, V8 GND, V17 GND, W1 GND, W7 GND, W10 GND, W14 GND, Y1 GND, Y3 GND, Y5 GND, Y9 GND, Y10 GND, Y11 GND, Y21 GND
part A text: Xilinx Zynq-7000 XC7Z015-2CLG485I; BANK 0
part B text: Xilinx Zynq-7000 XC7Z015-2CLG485I; BANK 13
part C text: Xilinx Zynq-7000 XC7Z015-2CLG485I; BANK 34
part D text: Xilinx Zynq-7000 XC7Z015-2CLG485I; BANK 35
part E text: Xilinx Zynq-7000 XC7Z015-2CLG485I; BANK 112
part F text: Xilinx Zynq-7000 XC7Z015-2CLG485I; BANK 500
part G text: Xilinx Zynq-7000 XC7Z015-2CLG485I; BANK 501
part H text: Xilinx Zynq-7000 XC7Z015-2CLG485I; BANK 502
part I text: Xilinx Zynq-7000 XC7Z015-2CLG485I; BANK 502
part J text: PL/XADC Power; PS Power; Xilinx Zynq-7000 XC7Z015-2CLG485I; MGTP Power; Power
part K text: Xilinx Zynq-7000 XC7Z015-2CLG485I; Ground

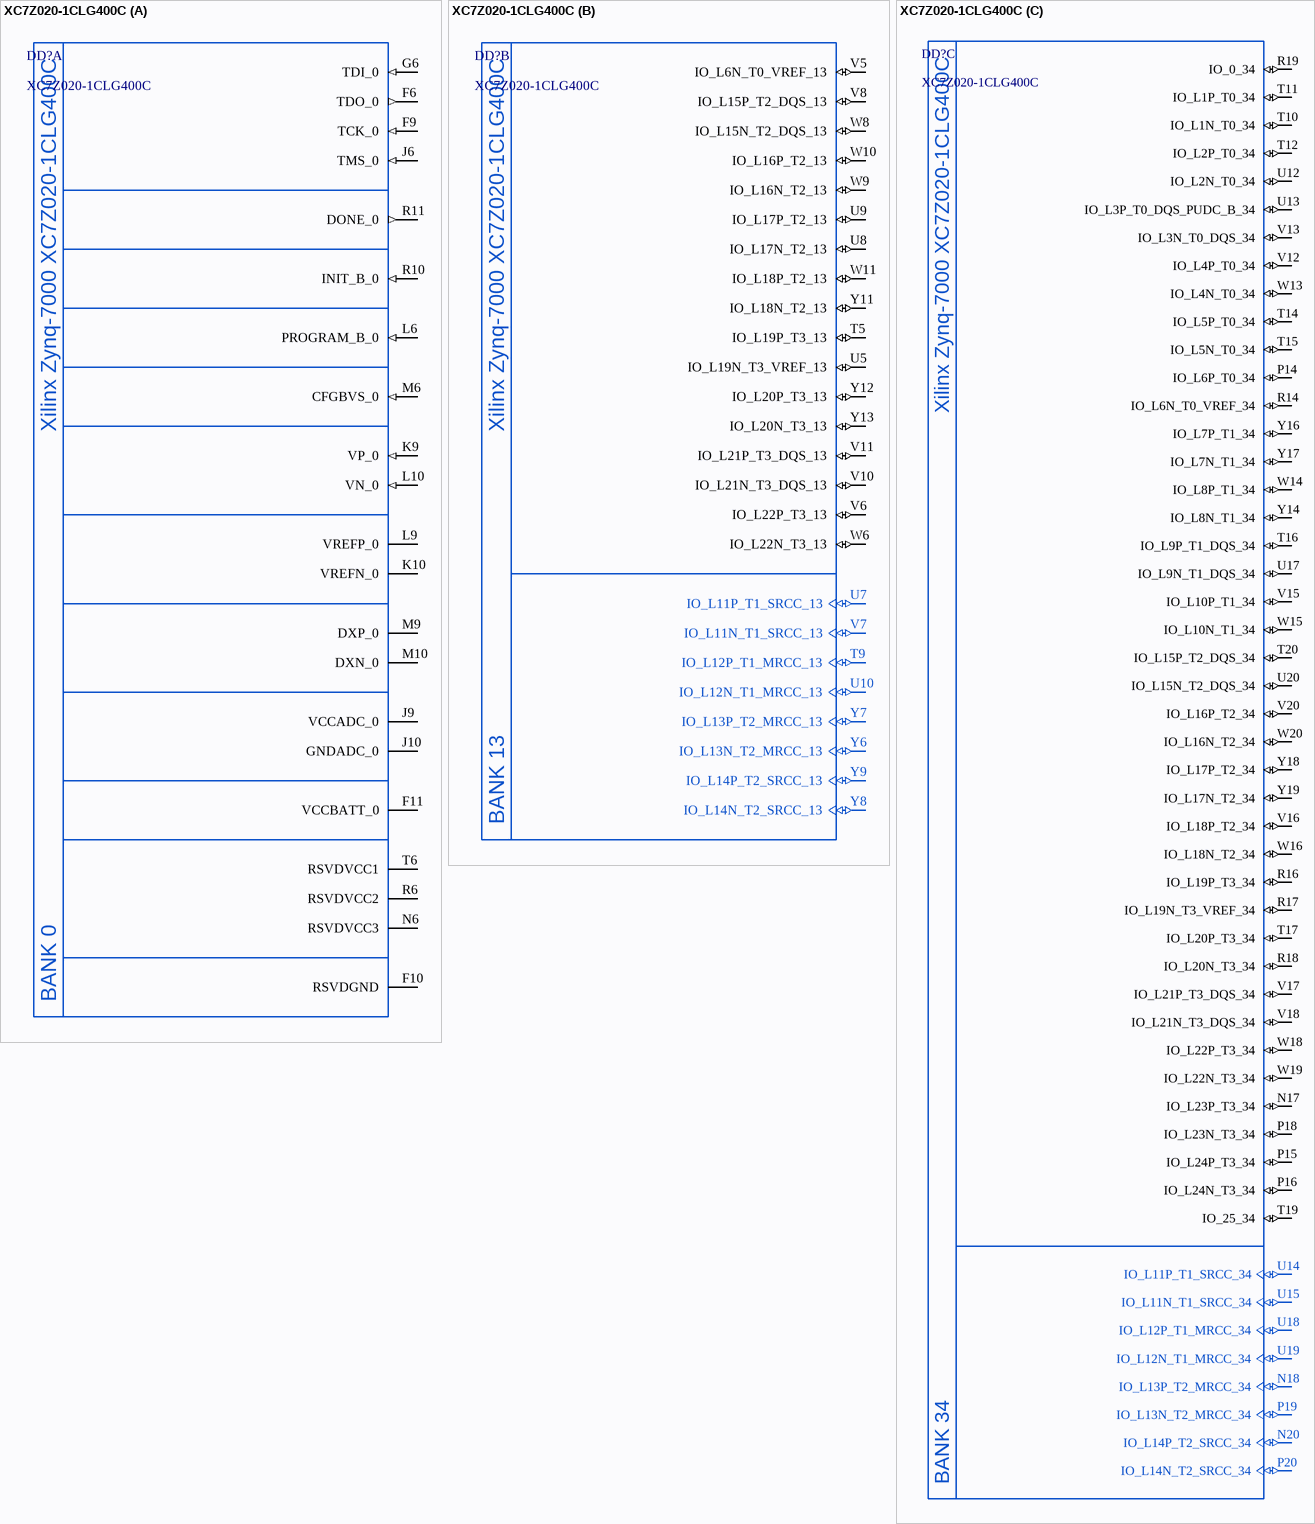
[diagram p46: symbol XC7Z020-1CLG400C]

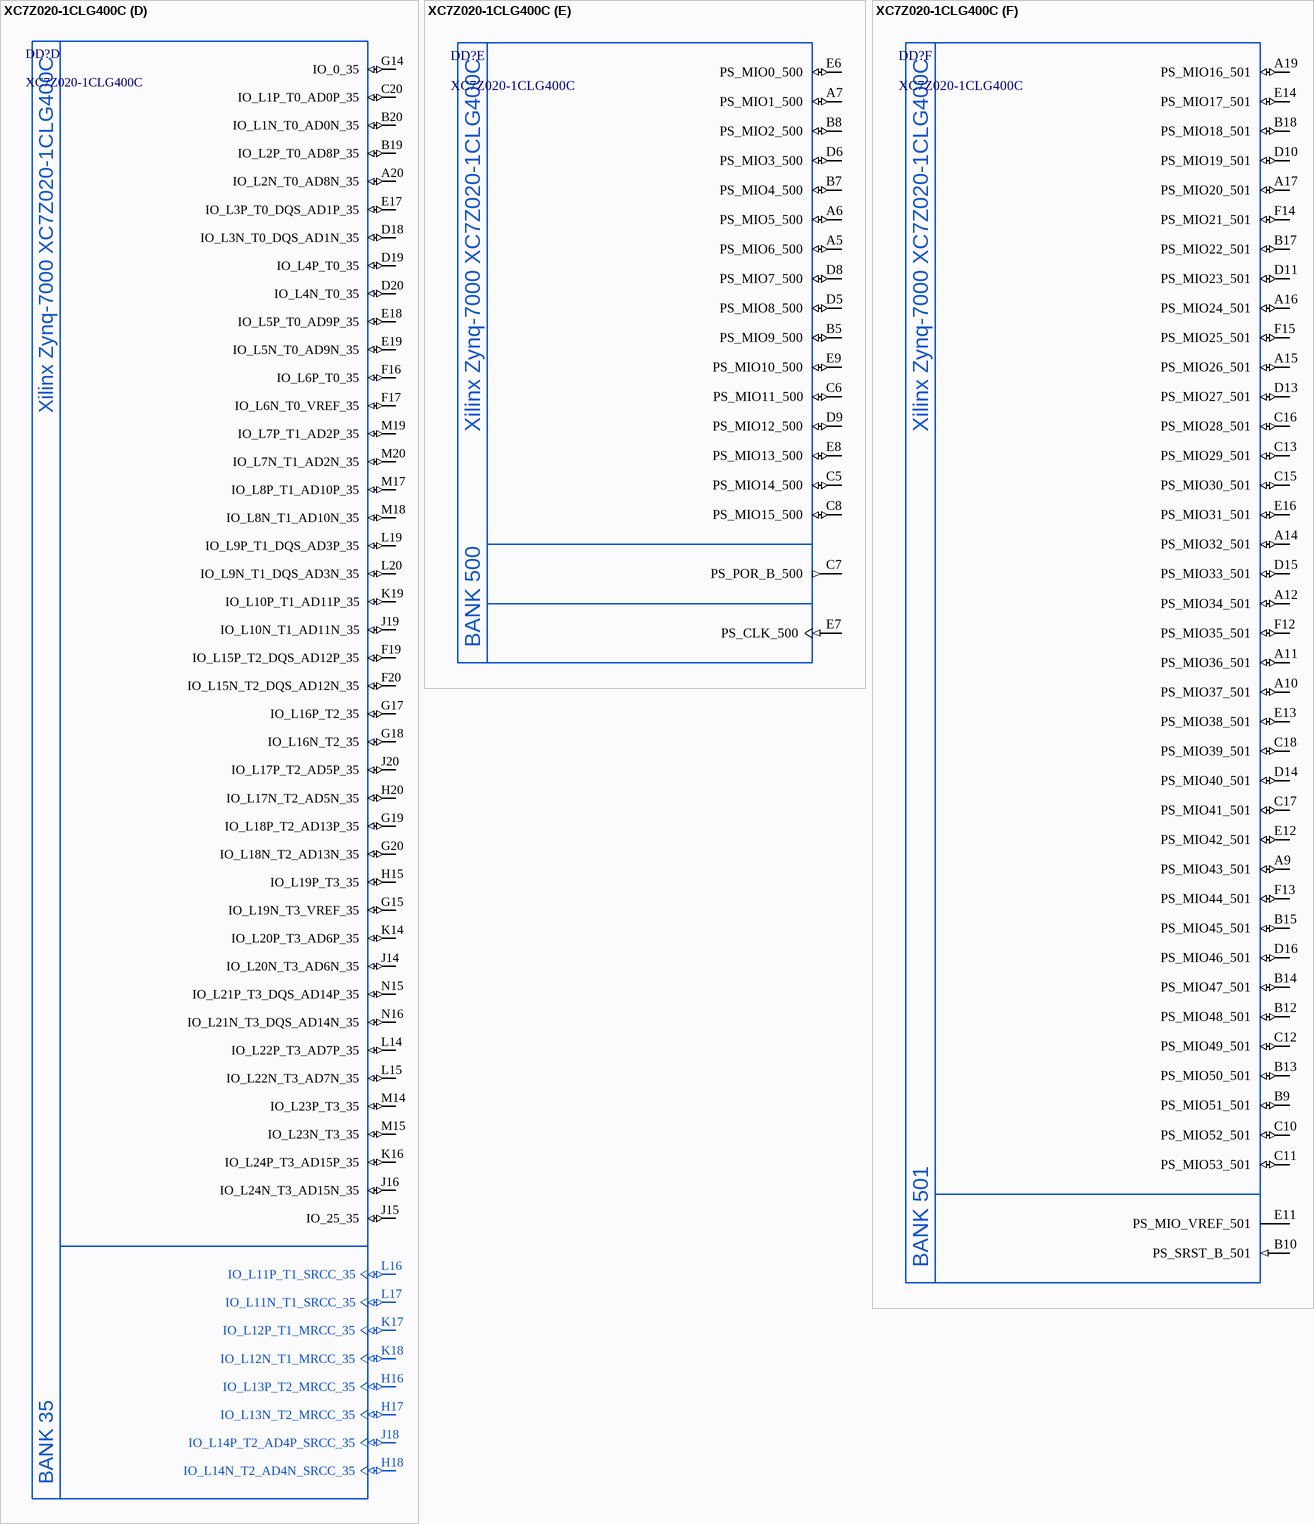
[diagram p47: symbol XC7Z020-1CLG400C]

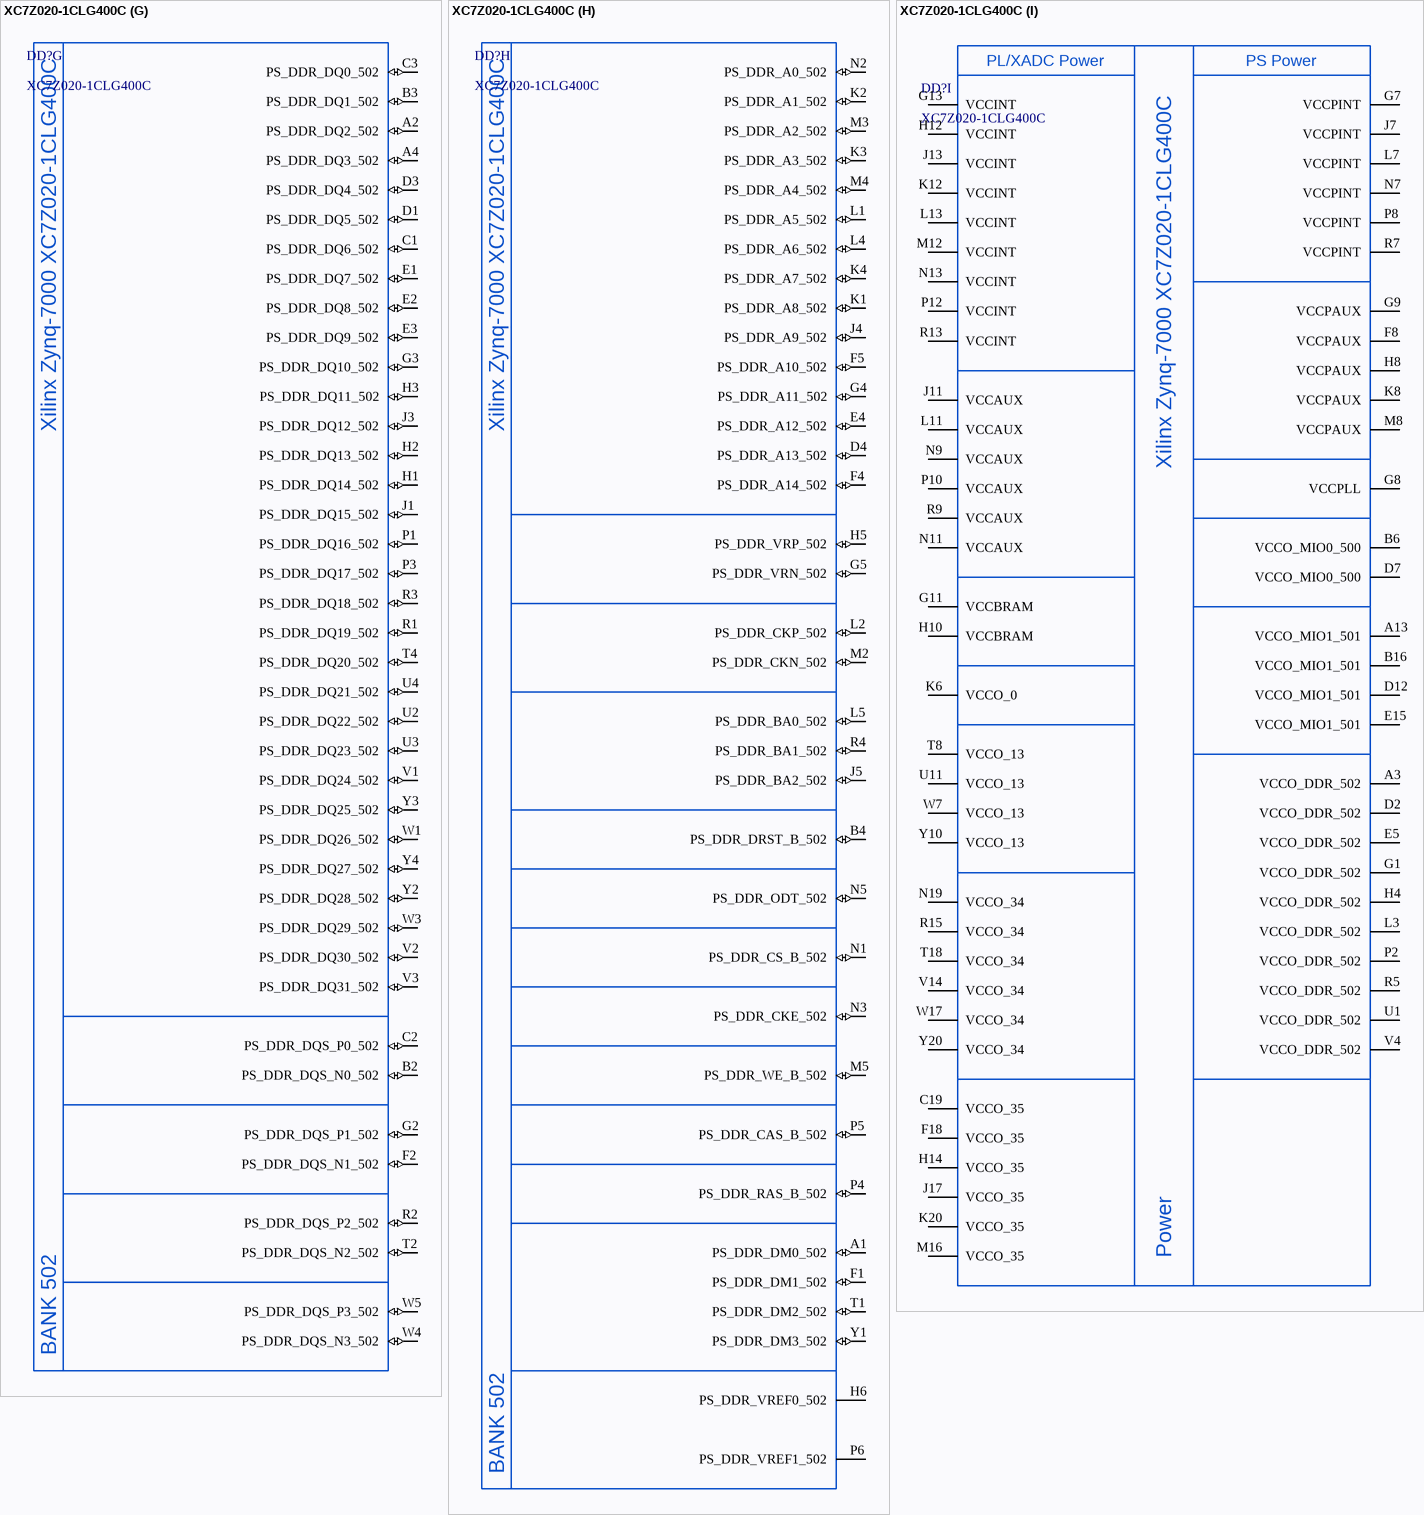
[diagram p48: symbol XC7Z020-1CLG400C]

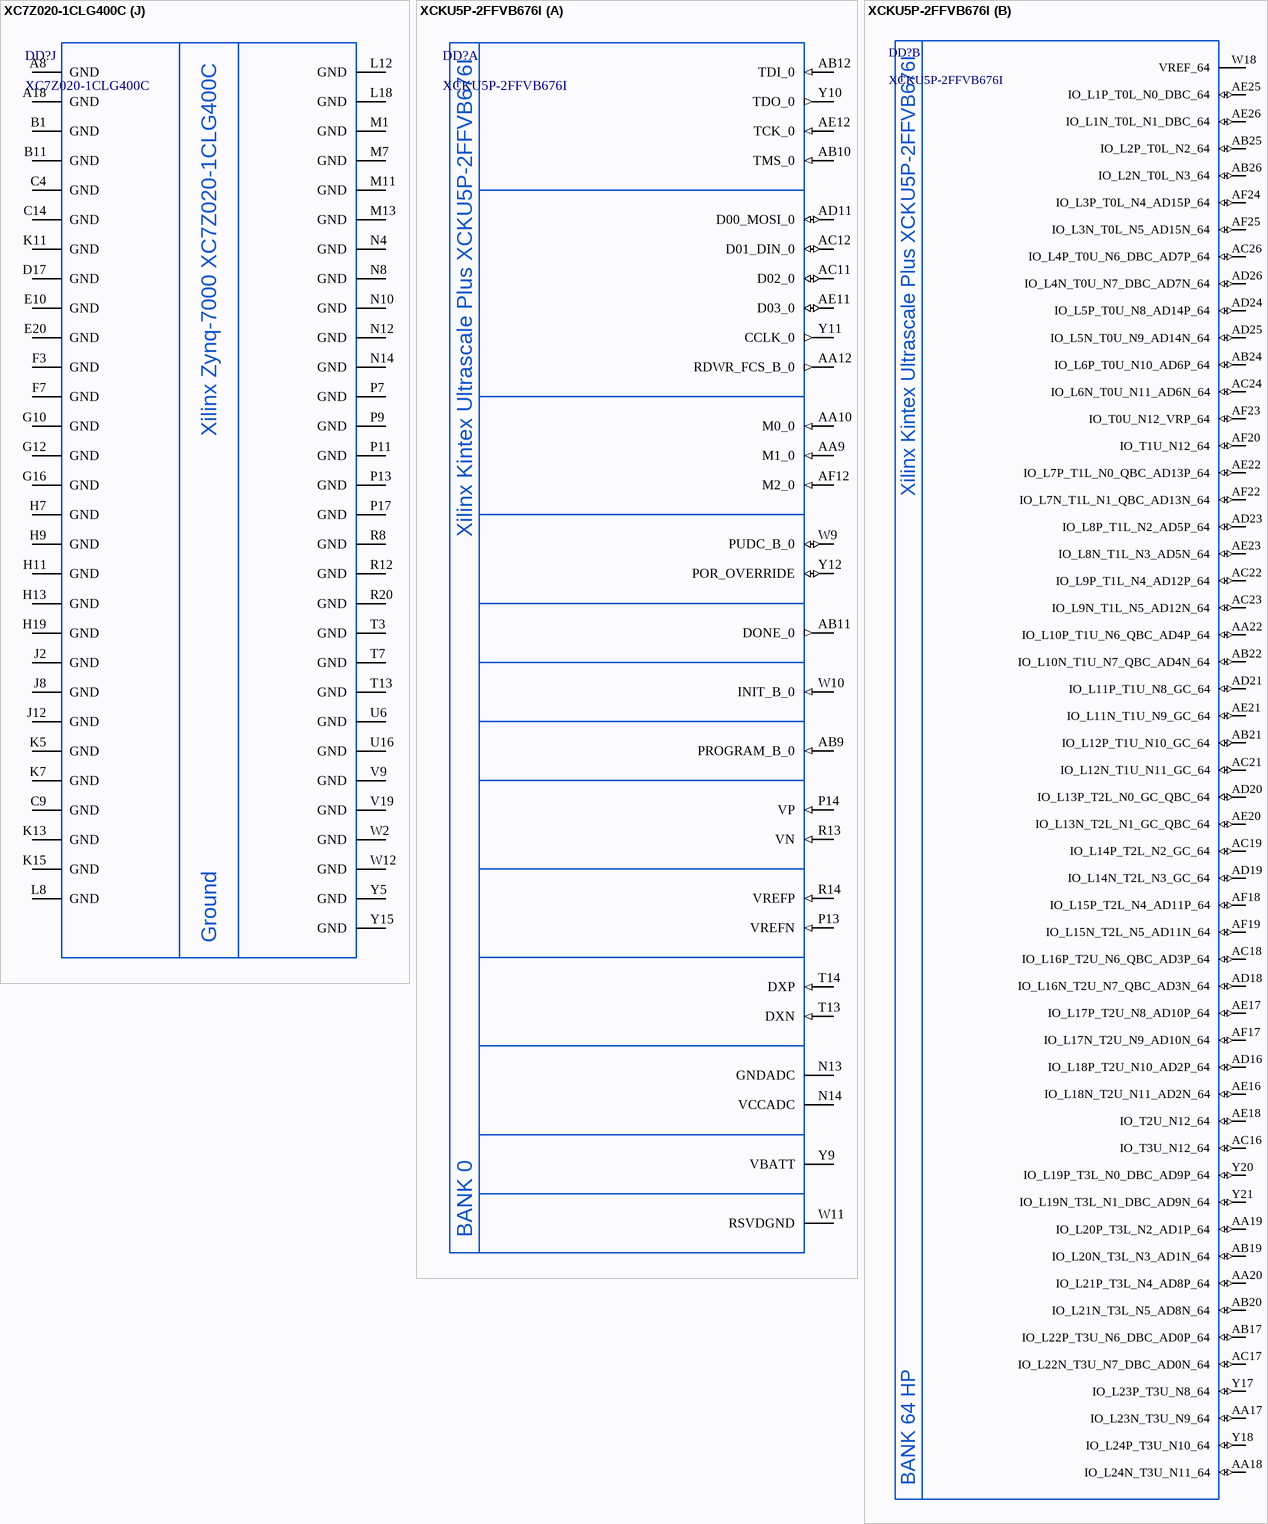
[diagram p49: symbols XC7Z020-1CLG400C to XCKU5P-2FFVB676I]

## XC7Z020-1CLG400C
designator DD?
Zynq-7000 Series SoC, Speed Grade 1; Manufacturer: Xilinx; Speed Grade: -1; ItemType: IC; Package: CSPBGA-400; PartNumber: XC7Z020-1CLG400C; Marking: XC7Z020; ItemSubType: SoC; Mounting: SMD
footprint CLG400_XC7Z020 (CLG400 Package for Zynq-7000 Series SoC. JEDEC MO-275-MMAA-1)
part A pins: F6 TDO_0 (out), F9 TCK_0 (in), F10 RSVDGND, F11 VCCBATT_0 (power), G6 TDI_0 (in), J6 TMS_0 (in), J9 VCCADC_0 (power), J10 GNDADC_0, K9 VP_0 (in), K10 VREFN_0, L6 PROGRAM_B_0 (in), L9 VREFP_0, L10 VN_0 (in), M6 CFGBVS_0 (in), M9 DXP_0, M10 DXN_0, N6 RSVDVCC3 (power), R6 RSVDVCC2 (power), R10 INIT_B_0 (in), R11 DONE_0 (out), T6 RSVDVCC1 (power)
part B pins: T5 IO_L19P_T3_13 (io), T9 IO_L12P_T1_MRCC_13 (io), U5 IO_L19N_T3_VREF_13 (io), U7 IO_L11P_T1_SRCC_13 (io), U8 IO_L17N_T2_13 (io), U9 IO_L17P_T2_13 (io), U10 IO_L12N_T1_MRCC_13 (io), V5 IO_L6N_T0_VREF_13 (io), V6 IO_L22P_T3_13 (io), V7 IO_L11N_T1_SRCC_13 (io), V8 IO_L15P_T2_DQS_13 (io), V10 IO_L21N_T3_DQS_13 (io), V11 IO_L21P_T3_DQS_13 (io), W6 IO_L22N_T3_13 (io), W8 IO_L15N_T2_DQS_13 (io), W9 IO_L16N_T2_13 (io), W10 IO_L16P_T2_13 (io), W11 IO_L18P_T2_13 (io), Y6 IO_L13N_T2_MRCC_13 (io), Y7 IO_L13P_T2_MRCC_13 (io), Y8 IO_L14N_T2_SRCC_13 (io), Y9 IO_L14P_T2_SRCC_13 (io), Y11 IO_L18N_T2_13 (io), Y12 IO_L20P_T3_13 (io), Y13 IO_L20N_T3_13 (io)
part C pins: N17 IO_L23P_T3_34 (io), N18 IO_L13P_T2_MRCC_34 (io), N20 IO_L14P_T2_SRCC_34 (io), P14 IO_L6P_T0_34 (io), P15 IO_L24P_T3_34 (io), P16 IO_L24N_T3_34 (io), P18 IO_L23N_T3_34 (io), P19 IO_L13N_T2_MRCC_34 (io), P20 IO_L14N_T2_SRCC_34 (io), R14 IO_L6N_T0_VREF_34 (io), R16 IO_L19P_T3_34 (io), R17 IO_L19N_T3_VREF_34 (io), R18 IO_L20N_T3_34 (io), R19 IO_0_34 (io), T10 IO_L1N_T0_34 (io), T11 IO_L1P_T0_34 (io), T12 IO_L2P_T0_34 (io), T14 IO_L5P_T0_34 (io), T15 IO_L5N_T0_34 (io), T16 IO_L9P_T1_DQS_34 (io), T17 IO_L20P_T3_34 (io), T19 IO_25_34 (io), T20 IO_L15P_T2_DQS_34 (io), U12 IO_L2N_T0_34 (io), U13 IO_L3P_T0_DQS_PUDC_B_34 (io), U14 IO_L11P_T1_SRCC_34 (io), U15 IO_L11N_T1_SRCC_34 (io), U17 IO_L9N_T1_DQS_34 (io), U18 IO_L12P_T1_MRCC_34 (io), U19 IO_L12N_T1_MRCC_34 (io), U20 IO_L15N_T2_DQS_34 (io), V12 IO_L4P_T0_34 (io), V13 IO_L3N_T0_DQS_34 (io), V15 IO_L10P_T1_34 (io), V16 IO_L18P_T2_34 (io), V17 IO_L21P_T3_DQS_34 (io), V18 IO_L21N_T3_DQS_34 (io), V20 IO_L16P_T2_34 (io), W13 IO_L4N_T0_34 (io), W14 IO_L8P_T1_34 (io), W15 IO_L10N_T1_34 (io), W16 IO_L18N_T2_34 (io), W18 IO_L22P_T3_34 (io), W19 IO_L22N_T3_34 (io), W20 IO_L16N_T2_34 (io), Y14 IO_L8N_T1_34 (io), Y16 IO_L7P_T1_34 (io), Y17 IO_L7N_T1_34 (io), Y18 IO_L17P_T2_34 (io), Y19 IO_L17N_T2_34 (io)
part D pins: A20 IO_L2N_T0_AD8N_35 (io), B19 IO_L2P_T0_AD8P_35 (io), B20 IO_L1N_T0_AD0N_35 (io), C20 IO_L1P_T0_AD0P_35 (io), D18 IO_L3N_T0_DQS_AD1N_35 (io), D19 IO_L4P_T0_35 (io), D20 IO_L4N_T0_35 (io), E17 IO_L3P_T0_DQS_AD1P_35 (io), E18 IO_L5P_T0_AD9P_35 (io), E19 IO_L5N_T0_AD9N_35 (io), F16 IO_L6P_T0_35 (io), F17 IO_L6N_T0_VREF_35 (io), F19 IO_L15P_T2_DQS_AD12P_35 (io), F20 IO_L15N_T2_DQS_AD12N_35 (io), G14 IO_0_35 (io), G15 IO_L19N_T3_VREF_35 (io), G17 IO_L16P_T2_35 (io), G18 IO_L16N_T2_35 (io), G19 IO_L18P_T2_AD13P_35 (io), G20 IO_L18N_T2_AD13N_35 (io), H15 IO_L19P_T3_35 (io), H16 IO_L13P_T2_MRCC_35 (io), H17 IO_L13N_T2_MRCC_35 (io), H18 IO_L14N_T2_AD4N_SRCC_35 (io), H20 IO_L17N_T2_AD5N_35 (io), J14 IO_L20N_T3_AD6N_35 (io), J15 IO_25_35 (io), J16 IO_L24N_T3_AD15N_35 (io), J18 IO_L14P_T2_AD4P_SRCC_35 (io), J19 IO_L10N_T1_AD11N_35 (io), J20 IO_L17P_T2_AD5P_35 (io), K14 IO_L20P_T3_AD6P_35 (io), K16 IO_L24P_T3_AD15P_35 (io), K17 IO_L12P_T1_MRCC_35 (io), K18 IO_L12N_T1_MRCC_35 (io), K19 IO_L10P_T1_AD11P_35 (io), L14 IO_L22P_T3_AD7P_35 (io), L15 IO_L22N_T3_AD7N_35 (io), L16 IO_L11P_T1_SRCC_35 (io), L17 IO_L11N_T1_SRCC_35 (io), L19 IO_L9P_T1_DQS_AD3P_35 (io), L20 IO_L9N_T1_DQS_AD3N_35 (io), M14 IO_L23P_T3_35 (io), M15 IO_L23N_T3_35 (io), M17 IO_L8P_T1_AD10P_35 (io), M18 IO_L8N_T1_AD10N_35 (io), M19 IO_L7P_T1_AD2P_35 (io), M20 IO_L7N_T1_AD2N_35 (io), N15 IO_L21P_T3_DQS_AD14P_35 (io), N16 IO_L21N_T3_DQS_AD14N_35 (io)
part E pins: A5 PS_MIO6_500 (io), A6 PS_MIO5_500 (io), A7 PS_MIO1_500 (io), B5 PS_MIO9_500 (io), B7 PS_MIO4_500 (io), B8 PS_MIO2_500 (io), C5 PS_MIO14_500 (io), C6 PS_MIO11_500 (io), C7 PS_POR_B_500 (out), C8 PS_MIO15_500 (io), D5 PS_MIO8_500 (io), D6 PS_MIO3_500 (io), D8 PS_MIO7_500 (io), D9 PS_MIO12_500 (io), E6 PS_MIO0_500 (io), E7 PS_CLK_500 (in), E8 PS_MIO13_500 (io), E9 PS_MIO10_500 (io)
part F pins: A9 PS_MIO43_501 (io), A10 PS_MIO37_501 (io), A11 PS_MIO36_501 (io), A12 PS_MIO34_501 (io), A14 PS_MIO32_501 (io), A15 PS_MIO26_501 (io), A16 PS_MIO24_501 (io), A17 PS_MIO20_501 (io), A19 PS_MIO16_501 (io), B9 PS_MIO51_501 (io), B10 PS_SRST_B_501 (in), B12 PS_MIO48_501 (io), B13 PS_MIO50_501 (io), B14 PS_MIO47_501 (io), B15 PS_MIO45_501 (io), B17 PS_MIO22_501 (io), B18 PS_MIO18_501 (io), C10 PS_MIO52_501 (io), C11 PS_MIO53_501 (io), C12 PS_MIO49_501 (io), C13 PS_MIO29_501 (io), C15 PS_MIO30_501 (io), C16 PS_MIO28_501 (io), C17 PS_MIO41_501 (io), C18 PS_MIO39_501 (io), D10 PS_MIO19_501 (io), D11 PS_MIO23_501 (io), D13 PS_MIO27_501 (io), D14 PS_MIO40_501 (io), D15 PS_MIO33_501 (io), D16 PS_MIO46_501 (io), E11 PS_MIO_VREF_501, E12 PS_MIO42_501 (io), E13 PS_MIO38_501 (io), E14 PS_MIO17_501 (io), E16 PS_MIO31_501 (io), F12 PS_MIO35_501 (io), F13 PS_MIO44_501 (io), F14 PS_MIO21_501 (io), F15 PS_MIO25_501 (io)
part G pins: A2 PS_DDR_DQ2_502 (io), A4 PS_DDR_DQ3_502 (io), B2 PS_DDR_DQS_N0_502 (io), B3 PS_DDR_DQ1_502 (io), C1 PS_DDR_DQ6_502 (io), C2 PS_DDR_DQS_P0_502 (io), C3 PS_DDR_DQ0_502 (io), D1 PS_DDR_DQ5_502 (io), D3 PS_DDR_DQ4_502 (io), E1 PS_DDR_DQ7_502 (io), E2 PS_DDR_DQ8_502 (io), E3 PS_DDR_DQ9_502 (io), F2 PS_DDR_DQS_N1_502 (io), G2 PS_DDR_DQS_P1_502 (io), G3 PS_DDR_DQ10_502 (io), H1 PS_DDR_DQ14_502 (io), H2 PS_DDR_DQ13_502 (io), H3 PS_DDR_DQ11_502 (io), J1 PS_DDR_DQ15_502 (io), J3 PS_DDR_DQ12_502 (io), P1 PS_DDR_DQ16_502 (io), P3 PS_DDR_DQ17_502 (io), R1 PS_DDR_DQ19_502 (io), R2 PS_DDR_DQS_P2_502 (io), R3 PS_DDR_DQ18_502 (io), T2 PS_DDR_DQS_N2_502 (io), T4 PS_DDR_DQ20_502 (io), U2 PS_DDR_DQ22_502 (io), U3 PS_DDR_DQ23_502 (io), U4 PS_DDR_DQ21_502 (io), V1 PS_DDR_DQ24_502 (io), V2 PS_DDR_DQ30_502 (io), V3 PS_DDR_DQ31_502 (io), W1 PS_DDR_DQ26_502 (io), W3 PS_DDR_DQ29_502 (io), W4 PS_DDR_DQS_N3_502 (io), W5 PS_DDR_DQS_P3_502 (io), Y2 PS_DDR_DQ28_502 (io), Y3 PS_DDR_DQ25_502 (io), Y4 PS_DDR_DQ27_502 (io)
part H pins: A1 PS_DDR_DM0_502 (io), B4 PS_DDR_DRST_B_502 (io), D4 PS_DDR_A13_502 (io), E4 PS_DDR_A12_502 (io), F1 PS_DDR_DM1_502 (io), F4 PS_DDR_A14_502 (io), F5 PS_DDR_A10_502 (io), G4 PS_DDR_A11_502 (io), G5 PS_DDR_VRN_502 (io), H5 PS_DDR_VRP_502 (io), H6 PS_DDR_VREF0_502, J4 PS_DDR_A9_502 (io), J5 PS_DDR_BA2_502 (io), K1 PS_DDR_A8_502 (io), K2 PS_DDR_A1_502 (io), K3 PS_DDR_A3_502 (io), K4 PS_DDR_A7_502 (io), L1 PS_DDR_A5_502 (io), L2 PS_DDR_CKP_502 (io), L4 PS_DDR_A6_502 (io), L5 PS_DDR_BA0_502 (io), M2 PS_DDR_CKN_502 (io), M3 PS_DDR_A2_502 (io), M4 PS_DDR_A4_502 (io), M5 PS_DDR_WE_B_502 (io), N1 PS_DDR_CS_B_502 (io), N2 PS_DDR_A0_502 (io), N3 PS_DDR_CKE_502 (io), N5 PS_DDR_ODT_502 (io), P4 PS_DDR_RAS_B_502 (io), P5 PS_DDR_CAS_B_502 (io), P6 PS_DDR_VREF1_502, R4 PS_DDR_BA1_502 (io), T1 PS_DDR_DM2_502 (io), Y1 PS_DDR_DM3_502 (io)
part I pins: A3 VCCO_DDR_502 (power), A13 VCCO_MIO1_501 (power), B6 VCCO_MIO0_500 (power), B16 VCCO_MIO1_501 (power), C19 VCCO_35 (power), D2 VCCO_DDR_502 (power), D7 VCCO_MIO0_500 (power), D12 VCCO_MIO1_501 (power), E5 VCCO_DDR_502 (power), E15 VCCO_MIO1_501 (power), F8 VCCPAUX (power), F18 VCCO_35 (power), G1 VCCO_DDR_502 (power), G7 VCCPINT (power), G8 VCCPLL (power), G9 VCCPAUX (power), G11 VCCBRAM (power), G13 VCCINT (power), H4 VCCO_DDR_502 (power), H8 VCCPAUX (power), H10 VCCBRAM (power), H12 VCCINT (power), H14 VCCO_35 (power), J7 VCCPINT (power), J11 VCCAUX (power), J13 VCCINT (power), J17 VCCO_35 (power), K6 VCCO_0 (power), K8 VCCPAUX (power), K12 VCCINT (power), K20 VCCO_35 (power), L3 VCCO_DDR_502 (power), L7 VCCPINT (power), L11 VCCAUX (power), L13 VCCINT (power), M8 VCCPAUX (power), M12 VCCINT (power), M16 VCCO_35 (power), N7 VCCPINT (power), N9 VCCAUX (power), N11 VCCAUX (power), N13 VCCINT (power), N19 VCCO_34 (power), P2 VCCO_DDR_502 (power), P8 VCCPINT (power), P10 VCCAUX (power), P12 VCCINT (power), R5 VCCO_DDR_502 (power), R7 VCCPINT (power), R9 VCCAUX (power), R13 VCCINT (power), R15 VCCO_34 (power), T8 VCCO_13 (power), T18 VCCO_34 (power), U1 VCCO_DDR_502 (power), U11 VCCO_13 (power), V4 VCCO_DDR_502 (power), V14 VCCO_34 (power), W7 VCCO_13 (power), W17 VCCO_34 (power), Y10 VCCO_13 (power), Y20 VCCO_34 (power)
part J pins: A8 GND, A18 GND, B1 GND, B11 GND, C4 GND, C9 GND, C14 GND, D17 GND, E10 GND, E20 GND, F3 GND, F7 GND, G10 GND, G12 GND, G16 GND, H7 GND, H9 GND, H11 GND, H13 GND, H19 GND, J2 GND, J8 GND, J12 GND, K5 GND, K7 GND, K11 GND, K13 GND, K15 GND, L8 GND, L12 GND, L18 GND, M1 GND, M7 GND, M11 GND, M13 GND, N4 GND, N8 GND, N10 GND, N12 GND, N14 GND, P7 GND, P9 GND, P11 GND, P13 GND, P17 GND, R8 GND, R12 GND, R20 GND, T3 GND, T7 GND, T13 GND, U6 GND, U16 GND, V9 GND, V19 GND, W2 GND, W12 GND, Y5 GND, Y15 GND
part A text: Xilinx Zynq-7000 XC7Z020-1CLG400C; BANK 0
part B text: Xilinx Zynq-7000 XC7Z020-1CLG400C; BANK 13
part C text: Xilinx Zynq-7000 XC7Z020-1CLG400C; BANK 34
part D text: Xilinx Zynq-7000 XC7Z020-1CLG400C; BANK 35
part E text: Xilinx Zynq-7000 XC7Z020-1CLG400C; BANK 500
part F text: Xilinx Zynq-7000 XC7Z020-1CLG400C; BANK 501
part G text: Xilinx Zynq-7000 XC7Z020-1CLG400C; BANK 502
part H text: Xilinx Zynq-7000 XC7Z020-1CLG400C; BANK 502
part I text: PL/XADC Power; PS Power; Xilinx Zynq-7000 XC7Z020-1CLG400C; Power
part J text: Xilinx Zynq-7000 XC7Z020-1CLG400C; Ground

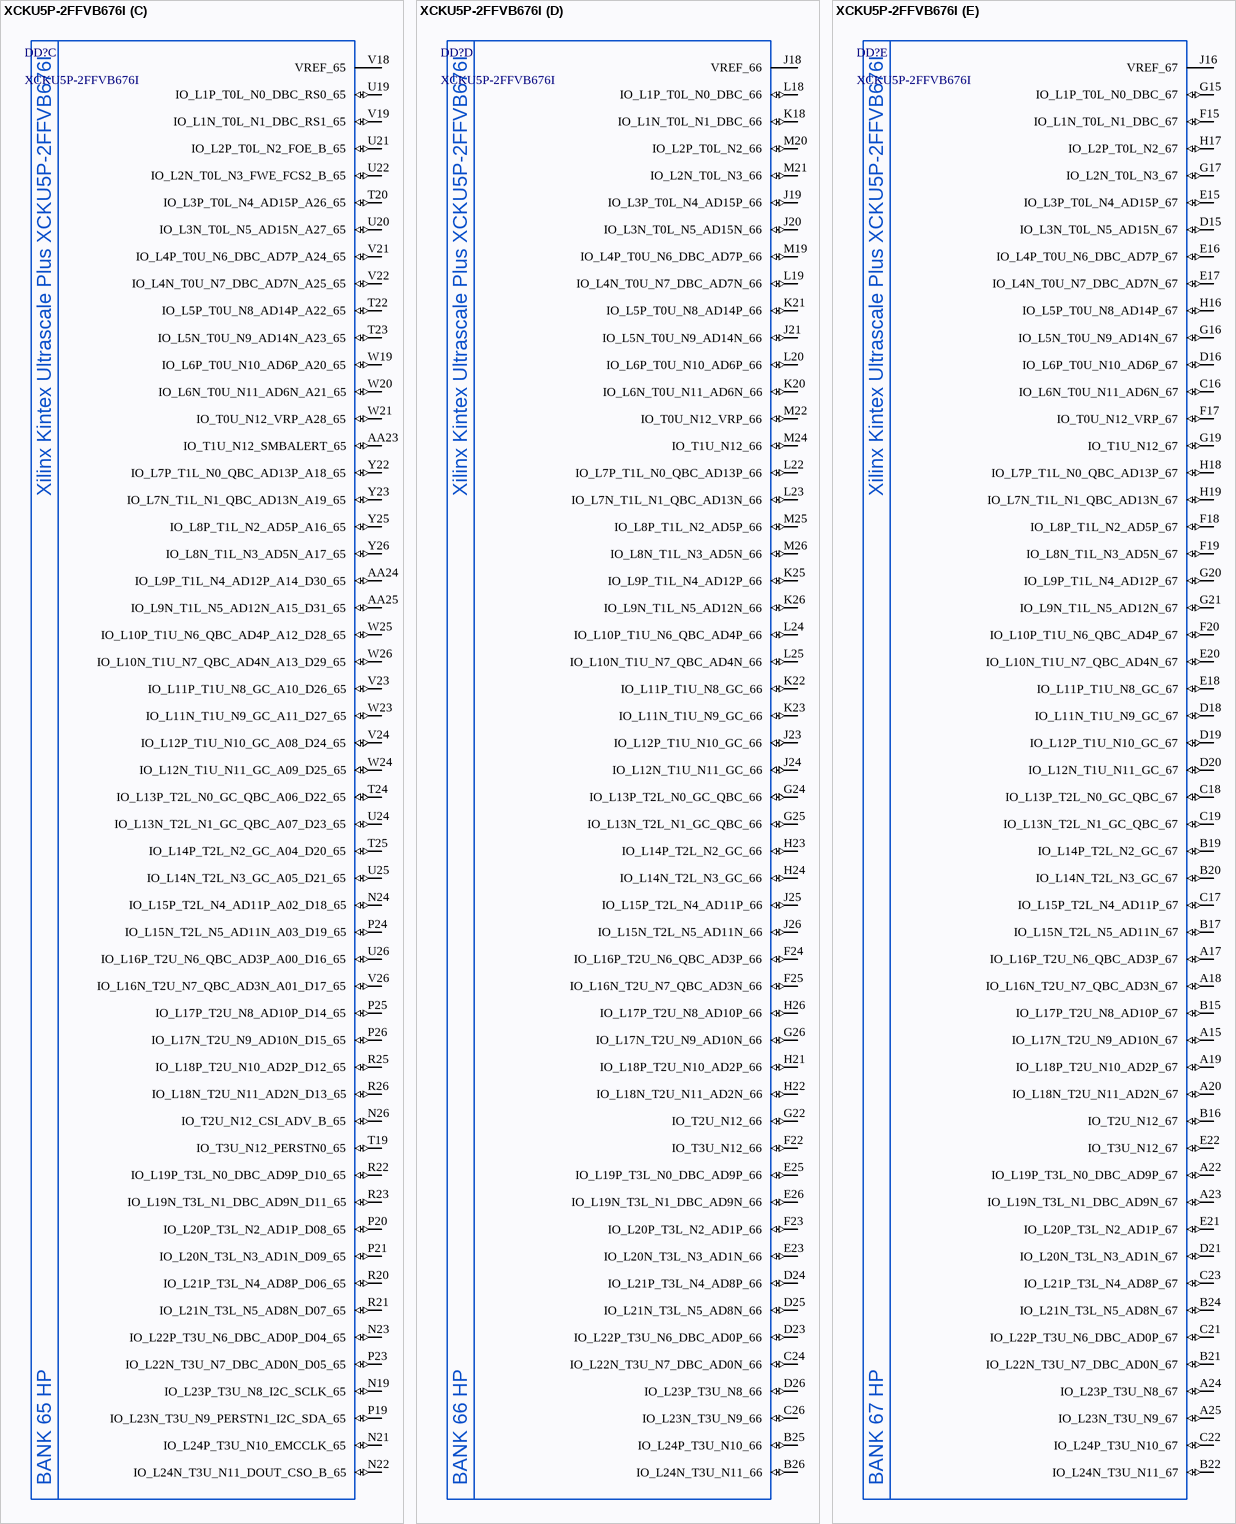
[diagram p50: symbol XCKU5P-2FFVB676I]

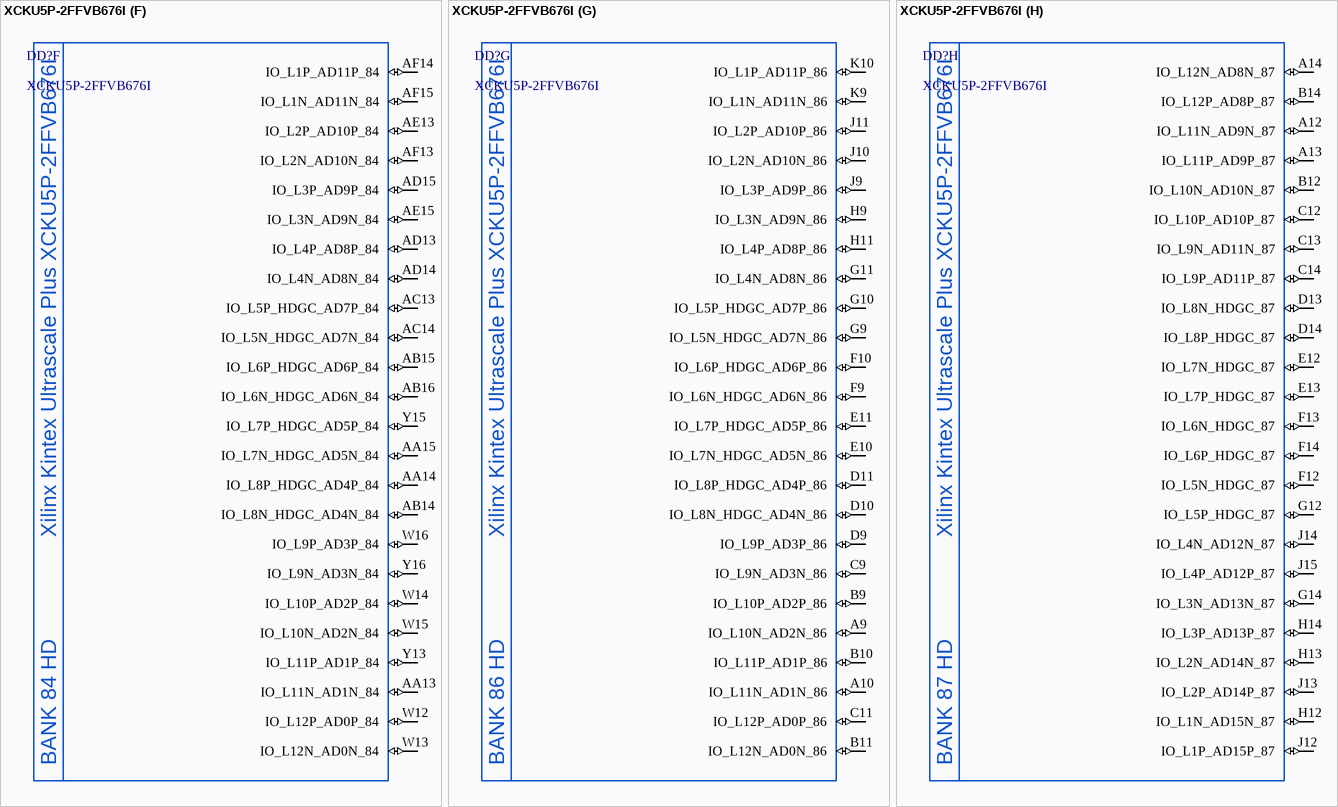
[diagram p51: symbol XCKU5P-2FFVB676I]

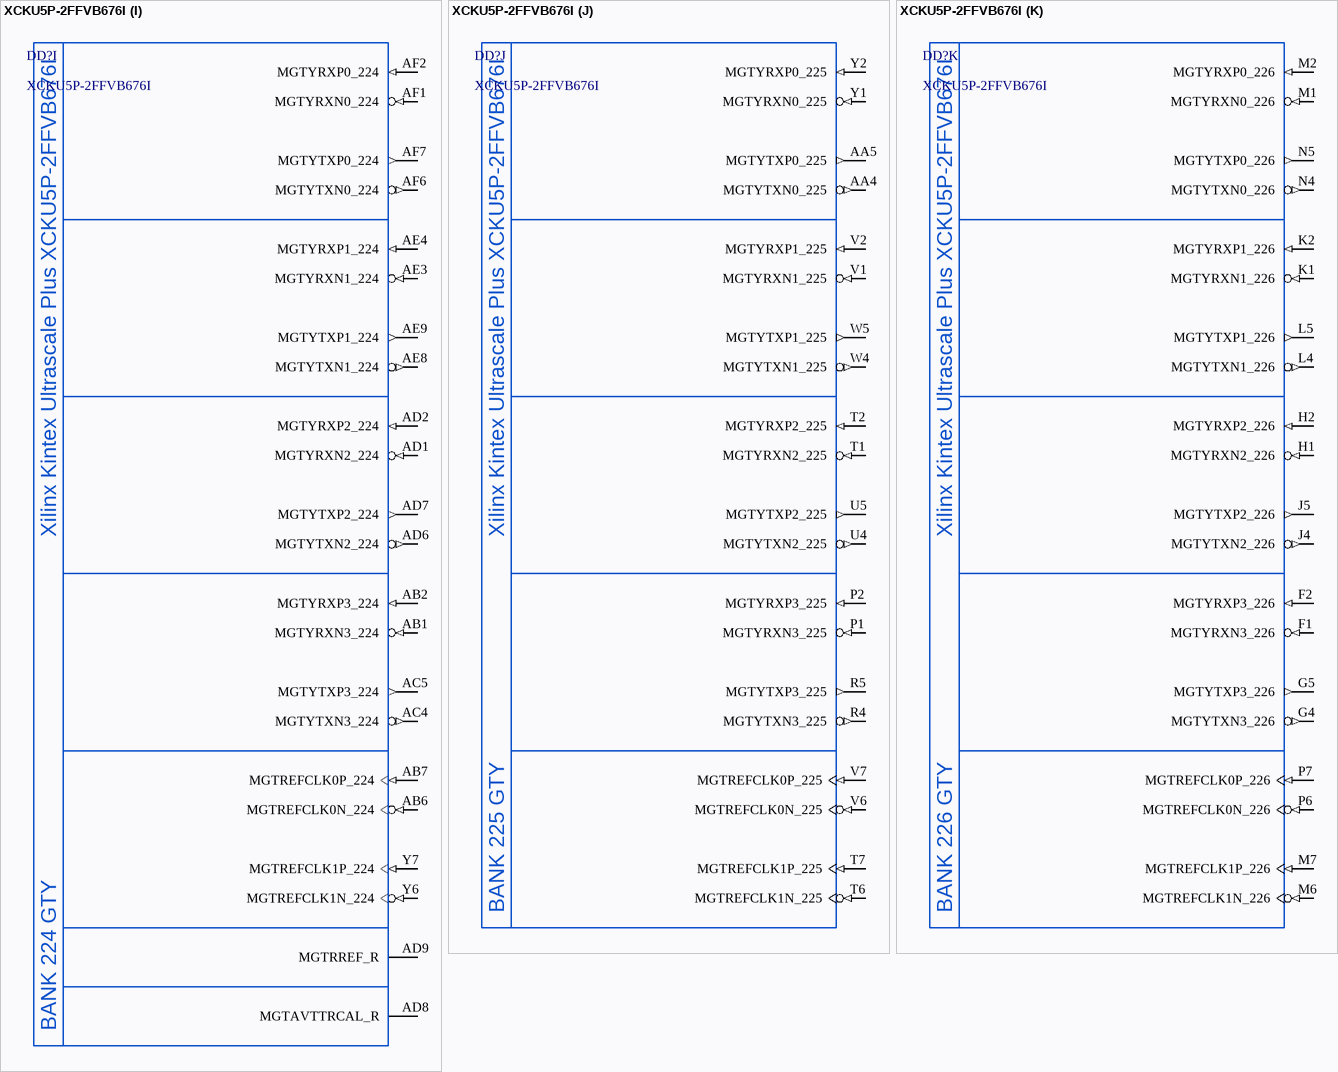
[diagram p52: symbol XCKU5P-2FFVB676I]

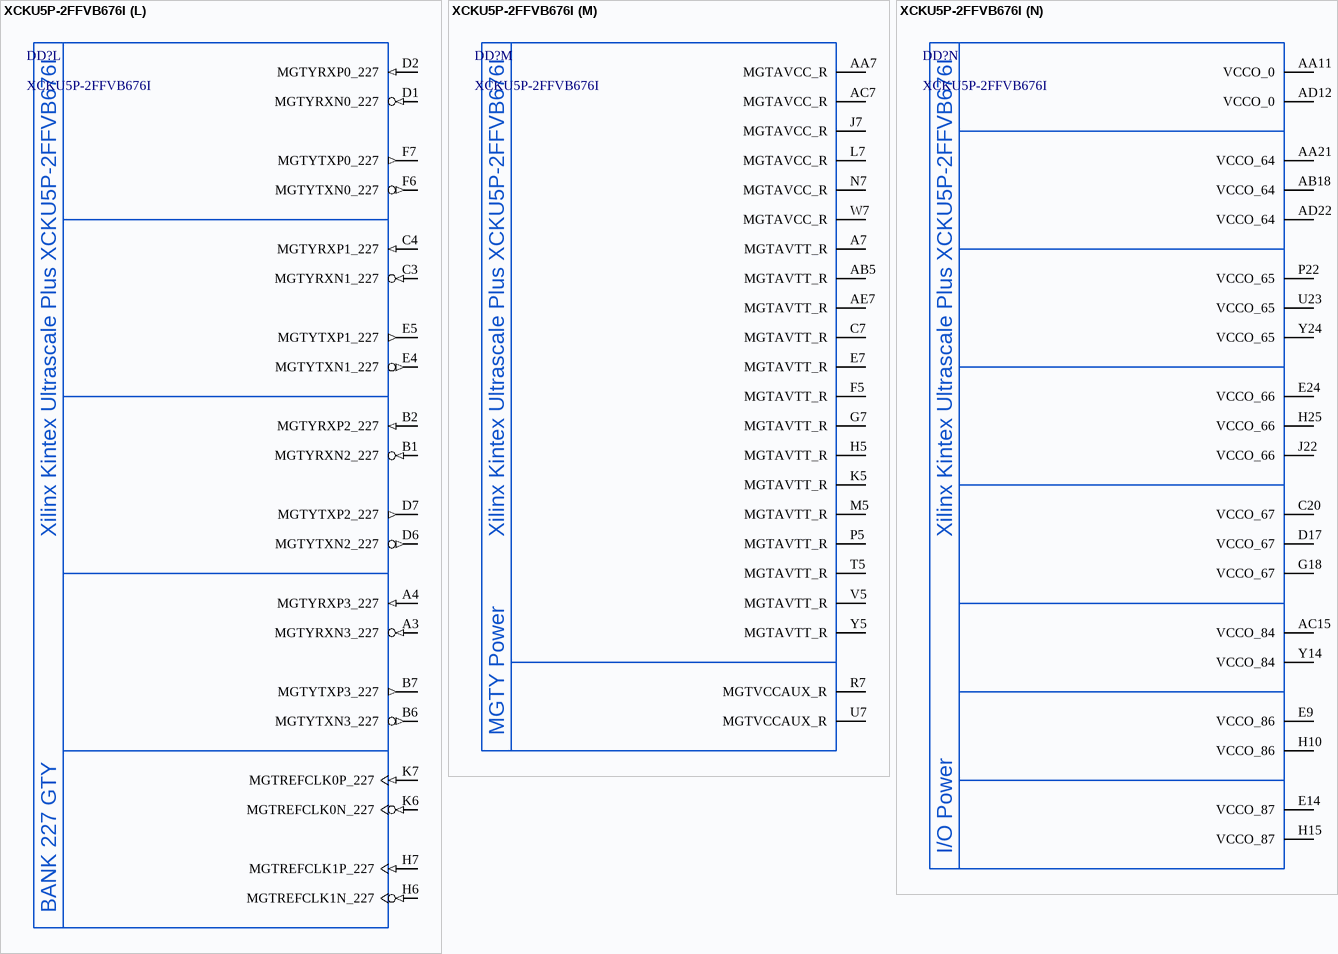
[diagram p53: symbol XCKU5P-2FFVB676I]

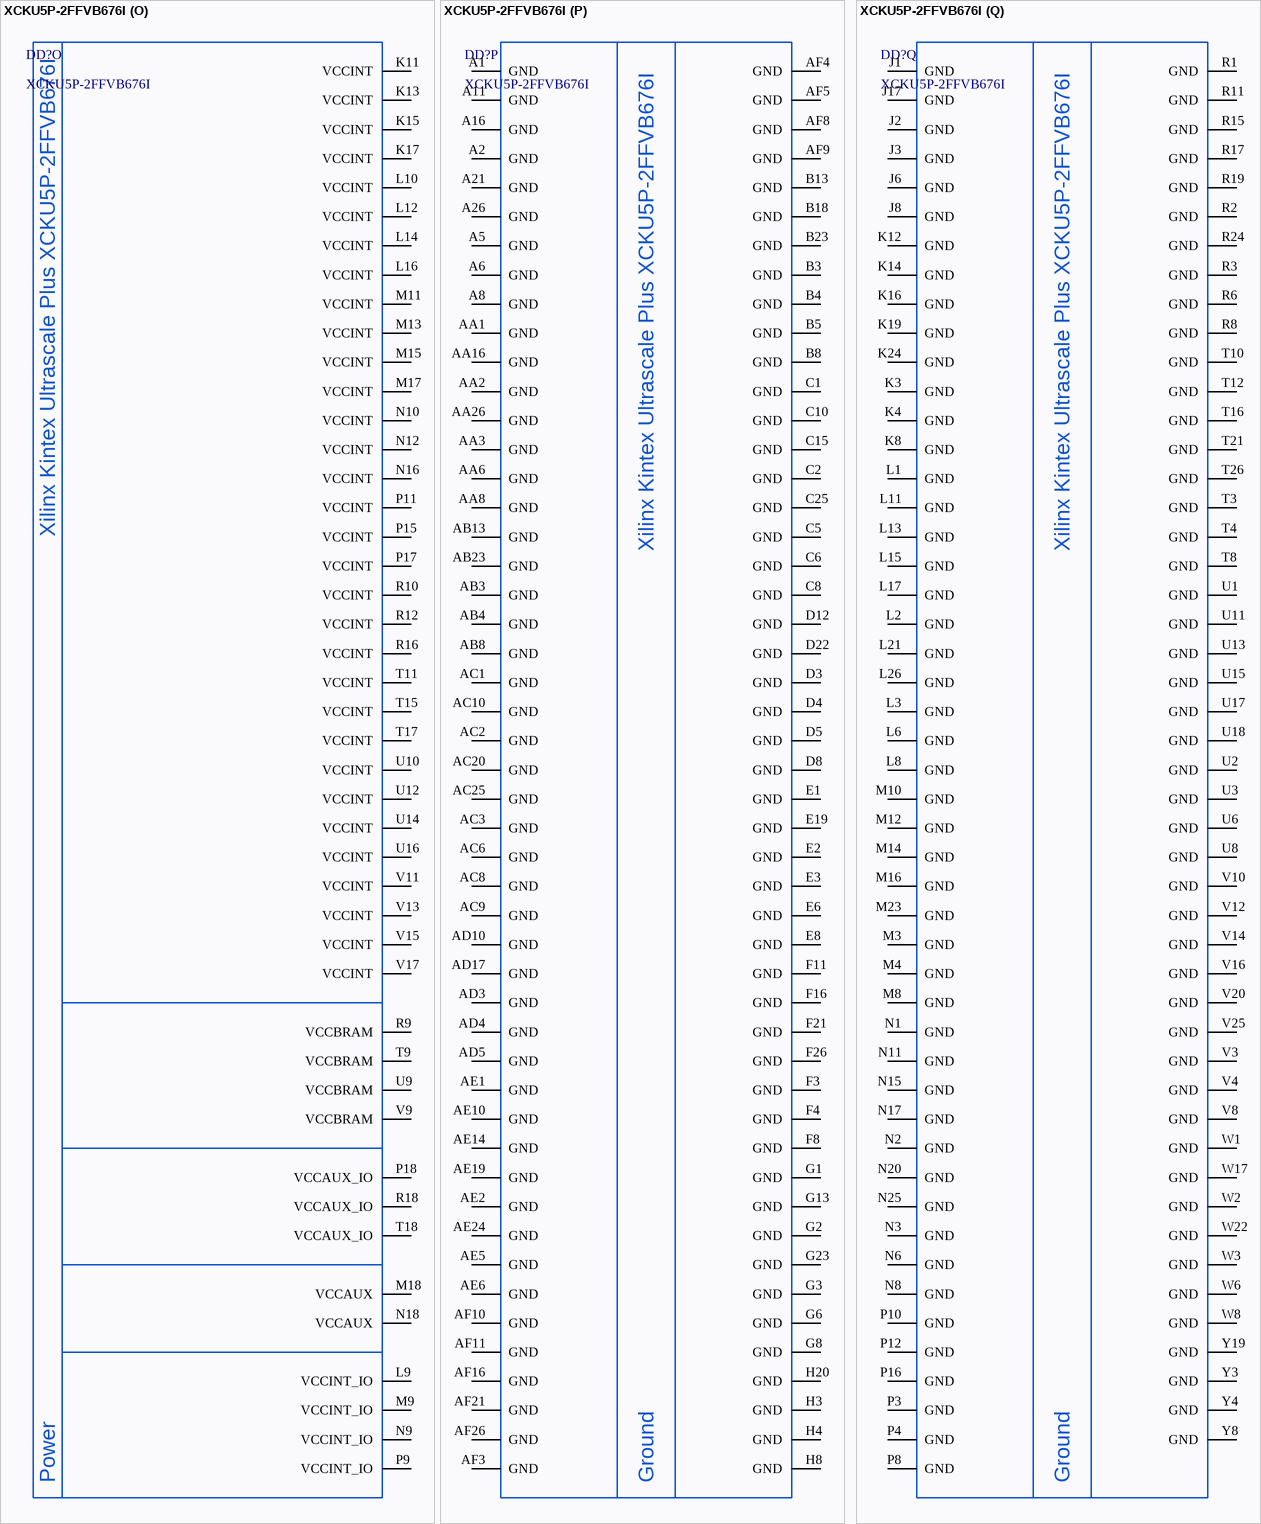
[diagram p54: symbol XCKU5P-2FFVB676I]

## XCKU5P-2FFVB676I
designator DD?
Kintex Ultrascale Plus FPGA, 280 User I/Os, 676-Ball BGA, 16 GTY; Manufacturer: Xilinx; Marking: XCKU5P; ItemType: IC; Speed Grade: -2; PartNumber: XCKU5P-2FFVB676I; Package: FFVB676; ItemSubType: FPGA; Mounting: SMD
footprint FFVB676_XCKU5P (BGA, 676-Leads, Body 27,00x27,00mmx3,31mm, Pitch 1,00mm)
part A pins: AA9 M1_0 (in), AA10 M0_0 (in), AA12 RDWR_FCS_B_0 (out), AB9 PROGRAM_B_0 (in), AB10 TMS_0 (in), AB11 DONE_0 (out), AB12 TDI_0 (in), AC11 D02_0 (io), AC12 D01_DIN_0 (io), AD11 D00_MOSI_0 (io), AE11 D03_0 (io), AE12 TCK_0 (in), AF12 M2_0 (in), N13 GNDADC, N14 VCCADC (power), P13 VREFN (in), P14 VP (in), R13 VN (in), R14 VREFP (in), T13 DXN (in), T14 DXP (in), W9 PUDC_B_0 (io), W10 INIT_B_0 (in), W11 RSVDGND, Y9 VBATT (power), Y10 TDO_0 (out), Y11 CCLK_0 (out), Y12 POR_OVERRIDE (io)
part B pins: AA17 IO_L23N_T3U_N9_64 (io), AA18 IO_L24N_T3U_N11_64 (io), AA19 IO_L20P_T3L_N2_AD1P_64 (io), AA20 IO_L21P_T3L_N4_AD8P_64 (io), AA22 IO_L10P_T1U_N6_QBC_AD4P_64 (io), AB17 IO_L22P_T3U_N6_DBC_AD0P_64 (io), AB19 IO_L20N_T3L_N3_AD1N_64 (io), AB20 IO_L21N_T3L_N5_AD8N_64 (io), AB21 IO_L12P_T1U_N10_GC_64 (io), AB22 IO_L10N_T1U_N7_QBC_AD4N_64 (io), AB24 IO_L6P_T0U_N10_AD6P_64 (io), AB25 IO_L2P_T0L_N2_64 (io), AB26 IO_L2N_T0L_N3_64 (io), AC16 IO_T3U_N12_64 (io), AC17 IO_L22N_T3U_N7_DBC_AD0N_64 (io), AC18 IO_L16P_T2U_N6_QBC_AD3P_64 (io), AC19 IO_L14P_T2L_N2_GC_64 (io), AC21 IO_L12N_T1U_N11_GC_64 (io), AC22 IO_L9P_T1L_N4_AD12P_64 (io), AC23 IO_L9N_T1L_N5_AD12N_64 (io), AC24 IO_L6N_T0U_N11_AD6N_64 (io), AC26 IO_L4P_T0U_N6_DBC_AD7P_64 (io), AD16 IO_L18P_T2U_N10_AD2P_64 (io), AD18 IO_L16N_T2U_N7_QBC_AD3N_64 (io), AD19 IO_L14N_T2L_N3_GC_64 (io), AD20 IO_L13P_T2L_N0_GC_QBC_64 (io), AD21 IO_L11P_T1U_N8_GC_64 (io), AD23 IO_L8P_T1L_N2_AD5P_64 (io), AD24 IO_L5P_T0U_N8_AD14P_64 (io), AD25 IO_L5N_T0U_N9_AD14N_64 (io), AD26 IO_L4N_T0U_N7_DBC_AD7N_64 (io), AE16 IO_L18N_T2U_N11_AD2N_64 (io), AE17 IO_L17P_T2U_N8_AD10P_64 (io), AE18 IO_T2U_N12_64 (io), AE20 IO_L13N_T2L_N1_GC_QBC_64 (io), AE21 IO_L11N_T1U_N9_GC_64 (io), AE22 IO_L7P_T1L_N0_QBC_AD13P_64 (io), AE23 IO_L8N_T1L_N3_AD5N_64 (io), AE25 IO_L1P_T0L_N0_DBC_64 (io), AE26 IO_L1N_T0L_N1_DBC_64 (io), AF17 IO_L17N_T2U_N9_AD10N_64 (io), AF18 IO_L15P_T2L_N4_AD11P_64 (io), AF19 IO_L15N_T2L_N5_AD11N_64 (io), AF20 IO_T1U_N12_64 (io), AF22 IO_L7N_T1L_N1_QBC_AD13N_64 (io), AF23 IO_T0U_N12_VRP_64 (io), AF24 IO_L3P_T0L_N4_AD15P_64 (io), AF25 IO_L3N_T0L_N5_AD15N_64 (io), W18 VREF_64, Y17 IO_L23P_T3U_N8_64 (io), Y18 IO_L24P_T3U_N10_64 (io), Y20 IO_L19P_T3L_N0_DBC_AD9P_64 (io), Y21 IO_L19N_T3L_N1_DBC_AD9N_64 (io)
part C pins: AA23 IO_T1U_N12_SMBALERT_65 (io), AA24 IO_L9P_T1L_N4_AD12P_A14_D30_65 (io), AA25 IO_L9N_T1L_N5_AD12N_A15_D31_65 (io), N19 IO_L23P_T3U_N8_I2C_SCLK_65 (io), N21 IO_L24P_T3U_N10_EMCCLK_65 (io), N22 IO_L24N_T3U_N11_DOUT_CSO_B_65 (io), N23 IO_L22P_T3U_N6_DBC_AD0P_D04_65 (io), N24 IO_L15P_T2L_N4_AD11P_A02_D18_65 (io), N26 IO_T2U_N12_CSI_ADV_B_65 (io), P19 IO_L23N_T3U_N9_PERSTN1_I2C_SDA_65 (io), P20 IO_L20P_T3L_N2_AD1P_D08_65 (io), P21 IO_L20N_T3L_N3_AD1N_D09_65 (io), P23 IO_L22N_T3U_N7_DBC_AD0N_D05_65 (io), P24 IO_L15N_T2L_N5_AD11N_A03_D19_65 (io), P25 IO_L17P_T2U_N8_AD10P_D14_65 (io), P26 IO_L17N_T2U_N9_AD10N_D15_65 (io), R20 IO_L21P_T3L_N4_AD8P_D06_65 (io), R21 IO_L21N_T3L_N5_AD8N_D07_65 (io), R22 IO_L19P_T3L_N0_DBC_AD9P_D10_65 (io), R23 IO_L19N_T3L_N1_DBC_AD9N_D11_65 (io), R25 IO_L18P_T2U_N10_AD2P_D12_65 (io), R26 IO_L18N_T2U_N11_AD2N_D13_65 (io), T19 IO_T3U_N12_PERSTN0_65 (io), T20 IO_L3P_T0L_N4_AD15P_A26_65 (io), T22 IO_L5P_T0U_N8_AD14P_A22_65 (io), T23 IO_L5N_T0U_N9_AD14N_A23_65 (io), T24 IO_L13P_T2L_N0_GC_QBC_A06_D22_65 (io), T25 IO_L14P_T2L_N2_GC_A04_D20_65 (io), U19 IO_L1P_T0L_N0_DBC_RS0_65 (io), U20 IO_L3N_T0L_N5_AD15N_A27_65 (io), U21 IO_L2P_T0L_N2_FOE_B_65 (io), U22 IO_L2N_T0L_N3_FWE_FCS2_B_65 (io), U24 IO_L13N_T2L_N1_GC_QBC_A07_D23_65 (io), U25 IO_L14N_T2L_N3_GC_A05_D21_65 (io), U26 IO_L16P_T2U_N6_QBC_AD3P_A00_D16_65 (io), V18 VREF_65, V19 IO_L1N_T0L_N1_DBC_RS1_65 (io), V21 IO_L4P_T0U_N6_DBC_AD7P_A24_65 (io), V22 IO_L4N_T0U_N7_DBC_AD7N_A25_65 (io), V23 IO_L11P_T1U_N8_GC_A10_D26_65 (io), V24 IO_L12P_T1U_N10_GC_A08_D24_65 (io), V26 IO_L16N_T2U_N7_QBC_AD3N_A01_D17_65 (io), W19 IO_L6P_T0U_N10_AD6P_A20_65 (io), W20 IO_L6N_T0U_N11_AD6N_A21_65 (io), W21 IO_T0U_N12_VRP_A28_65 (io), W23 IO_L11N_T1U_N9_GC_A11_D27_65 (io), W24 IO_L12N_T1U_N11_GC_A09_D25_65 (io), W25 IO_L10P_T1U_N6_QBC_AD4P_A12_D28_65 (io), W26 IO_L10N_T1U_N7_QBC_AD4N_A13_D29_65 (io), Y22 IO_L7P_T1L_N0_QBC_AD13P_A18_65 (io), Y23 IO_L7N_T1L_N1_QBC_AD13N_A19_65 (io), Y25 IO_L8P_T1L_N2_AD5P_A16_65 (io), Y26 IO_L8N_T1L_N3_AD5N_A17_65 (io)
part D pins: B25 IO_L24P_T3U_N10_66 (io), B26 IO_L24N_T3U_N11_66 (io), C24 IO_L22N_T3U_N7_DBC_AD0N_66 (io), C26 IO_L23N_T3U_N9_66 (io), D23 IO_L22P_T3U_N6_DBC_AD0P_66 (io), D24 IO_L21P_T3L_N4_AD8P_66 (io), D25 IO_L21N_T3L_N5_AD8N_66 (io), D26 IO_L23P_T3U_N8_66 (io), E23 IO_L20N_T3L_N3_AD1N_66 (io), E25 IO_L19P_T3L_N0_DBC_AD9P_66 (io), E26 IO_L19N_T3L_N1_DBC_AD9N_66 (io), F22 IO_T3U_N12_66 (io), F23 IO_L20P_T3L_N2_AD1P_66 (io), F24 IO_L16P_T2U_N6_QBC_AD3P_66 (io), F25 IO_L16N_T2U_N7_QBC_AD3N_66 (io), G22 IO_T2U_N12_66 (io), G24 IO_L13P_T2L_N0_GC_QBC_66 (io), G25 IO_L13N_T2L_N1_GC_QBC_66 (io), G26 IO_L17N_T2U_N9_AD10N_66 (io), H21 IO_L18P_T2U_N10_AD2P_66 (io), H22 IO_L18N_T2U_N11_AD2N_66 (io), H23 IO_L14P_T2L_N2_GC_66 (io), H24 IO_L14N_T2L_N3_GC_66 (io), H26 IO_L17P_T2U_N8_AD10P_66 (io), J18 VREF_66, J19 IO_L3P_T0L_N4_AD15P_66 (io), J20 IO_L3N_T0L_N5_AD15N_66 (io), J21 IO_L5N_T0U_N9_AD14N_66 (io), J23 IO_L12P_T1U_N10_GC_66 (io), J24 IO_L12N_T1U_N11_GC_66 (io), J25 IO_L15P_T2L_N4_AD11P_66 (io), J26 IO_L15N_T2L_N5_AD11N_66 (io), K18 IO_L1N_T0L_N1_DBC_66 (io), K20 IO_L6N_T0U_N11_AD6N_66 (io), K21 IO_L5P_T0U_N8_AD14P_66 (io), K22 IO_L11P_T1U_N8_GC_66 (io), K23 IO_L11N_T1U_N9_GC_66 (io), K25 IO_L9P_T1L_N4_AD12P_66 (io), K26 IO_L9N_T1L_N5_AD12N_66 (io), L18 IO_L1P_T0L_N0_DBC_66 (io), L19 IO_L4N_T0U_N7_DBC_AD7N_66 (io), L20 IO_L6P_T0U_N10_AD6P_66 (io), L22 IO_L7P_T1L_N0_QBC_AD13P_66 (io), L23 IO_L7N_T1L_N1_QBC_AD13N_66 (io), L24 IO_L10P_T1U_N6_QBC_AD4P_66 (io), L25 IO_L10N_T1U_N7_QBC_AD4N_66 (io), M19 IO_L4P_T0U_N6_DBC_AD7P_66 (io), M20 IO_L2P_T0L_N2_66 (io), M21 IO_L2N_T0L_N3_66 (io), M22 IO_T0U_N12_VRP_66 (io), M24 IO_T1U_N12_66 (io), M25 IO_L8P_T1L_N2_AD5P_66 (io), M26 IO_L8N_T1L_N3_AD5N_66 (io)
part E pins: A15 IO_L17N_T2U_N9_AD10N_67 (io), A17 IO_L16P_T2U_N6_QBC_AD3P_67 (io), A18 IO_L16N_T2U_N7_QBC_AD3N_67 (io), A19 IO_L18P_T2U_N10_AD2P_67 (io), A20 IO_L18N_T2U_N11_AD2N_67 (io), A22 IO_L19P_T3L_N0_DBC_AD9P_67 (io), A23 IO_L19N_T3L_N1_DBC_AD9N_67 (io), A24 IO_L23P_T3U_N8_67 (io), A25 IO_L23N_T3U_N9_67 (io), B15 IO_L17P_T2U_N8_AD10P_67 (io), B16 IO_T2U_N12_67 (io), B17 IO_L15N_T2L_N5_AD11N_67 (io), B19 IO_L14P_T2L_N2_GC_67 (io), B20 IO_L14N_T2L_N3_GC_67 (io), B21 IO_L22N_T3U_N7_DBC_AD0N_67 (io), B22 IO_L24N_T3U_N11_67 (io), B24 IO_L21N_T3L_N5_AD8N_67 (io), C16 IO_L6N_T0U_N11_AD6N_67 (io), C17 IO_L15P_T2L_N4_AD11P_67 (io), C18 IO_L13P_T2L_N0_GC_QBC_67 (io), C19 IO_L13N_T2L_N1_GC_QBC_67 (io), C21 IO_L22P_T3U_N6_DBC_AD0P_67 (io), C22 IO_L24P_T3U_N10_67 (io), C23 IO_L21P_T3L_N4_AD8P_67 (io), D15 IO_L3N_T0L_N5_AD15N_67 (io), D16 IO_L6P_T0U_N10_AD6P_67 (io), D18 IO_L11N_T1U_N9_GC_67 (io), D19 IO_L12P_T1U_N10_GC_67 (io), D20 IO_L12N_T1U_N11_GC_67 (io), D21 IO_L20N_T3L_N3_AD1N_67 (io), E15 IO_L3P_T0L_N4_AD15P_67 (io), E16 IO_L4P_T0U_N6_DBC_AD7P_67 (io), E17 IO_L4N_T0U_N7_DBC_AD7N_67 (io), E18 IO_L11P_T1U_N8_GC_67 (io), E20 IO_L10N_T1U_N7_QBC_AD4N_67 (io), E21 IO_L20P_T3L_N2_AD1P_67 (io), E22 IO_T3U_N12_67 (io), F15 IO_L1N_T0L_N1_DBC_67 (io), F17 IO_T0U_N12_VRP_67 (io), F18 IO_L8P_T1L_N2_AD5P_67 (io), F19 IO_L8N_T1L_N3_AD5N_67 (io), F20 IO_L10P_T1U_N6_QBC_AD4P_67 (io), G15 IO_L1P_T0L_N0_DBC_67 (io), G16 IO_L5N_T0U_N9_AD14N_67 (io), G17 IO_L2N_T0L_N3_67 (io), G19 IO_T1U_N12_67 (io), G20 IO_L9P_T1L_N4_AD12P_67 (io), G21 IO_L9N_T1L_N5_AD12N_67 (io), H16 IO_L5P_T0U_N8_AD14P_67 (io), H17 IO_L2P_T0L_N2_67 (io), H18 IO_L7P_T1L_N0_QBC_AD13P_67 (io), H19 IO_L7N_T1L_N1_QBC_AD13N_67 (io), J16 VREF_67
part F pins: AA13 IO_L11N_AD1N_84 (io), AA14 IO_L8P_HDGC_AD4P_84 (io), AA15 IO_L7N_HDGC_AD5N_84 (io), AB14 IO_L8N_HDGC_AD4N_84 (io), AB15 IO_L6P_HDGC_AD6P_84 (io), AB16 IO_L6N_HDGC_AD6N_84 (io), AC13 IO_L5P_HDGC_AD7P_84 (io), AC14 IO_L5N_HDGC_AD7N_84 (io), AD13 IO_L4P_AD8P_84 (io), AD14 IO_L4N_AD8N_84 (io), AD15 IO_L3P_AD9P_84 (io), AE13 IO_L2P_AD10P_84 (io), AE15 IO_L3N_AD9N_84 (io), AF13 IO_L2N_AD10N_84 (io), AF14 IO_L1P_AD11P_84 (io), AF15 IO_L1N_AD11N_84 (io), W12 IO_L12P_AD0P_84 (io), W13 IO_L12N_AD0N_84 (io), W14 IO_L10P_AD2P_84 (io), W15 IO_L10N_AD2N_84 (io), W16 IO_L9P_AD3P_84 (io), Y13 IO_L11P_AD1P_84 (io), Y15 IO_L7P_HDGC_AD5P_84 (io), Y16 IO_L9N_AD3N_84 (io)
part G pins: A9 IO_L10N_AD2N_86 (io), A10 IO_L11N_AD1N_86 (io), B9 IO_L10P_AD2P_86 (io), B10 IO_L11P_AD1P_86 (io), B11 IO_L12N_AD0N_86 (io), C9 IO_L9N_AD3N_86 (io), C11 IO_L12P_AD0P_86 (io), D9 IO_L9P_AD3P_86 (io), D10 IO_L8N_HDGC_AD4N_86 (io), D11 IO_L8P_HDGC_AD4P_86 (io), E10 IO_L7N_HDGC_AD5N_86 (io), E11 IO_L7P_HDGC_AD5P_86 (io), F9 IO_L6N_HDGC_AD6N_86 (io), F10 IO_L6P_HDGC_AD6P_86 (io), G9 IO_L5N_HDGC_AD7N_86 (io), G10 IO_L5P_HDGC_AD7P_86 (io), G11 IO_L4N_AD8N_86 (io), H9 IO_L3N_AD9N_86 (io), H11 IO_L4P_AD8P_86 (io), J9 IO_L3P_AD9P_86 (io), J10 IO_L2N_AD10N_86 (io), J11 IO_L2P_AD10P_86 (io), K9 IO_L1N_AD11N_86 (io), K10 IO_L1P_AD11P_86 (io)
part H pins: A12 IO_L11N_AD9N_87 (io), A13 IO_L11P_AD9P_87 (io), A14 IO_L12N_AD8N_87 (io), B12 IO_L10N_AD10N_87 (io), B14 IO_L12P_AD8P_87 (io), C12 IO_L10P_AD10P_87 (io), C13 IO_L9N_AD11N_87 (io), C14 IO_L9P_AD11P_87 (io), D13 IO_L8N_HDGC_87 (io), D14 IO_L8P_HDGC_87 (io), E12 IO_L7N_HDGC_87 (io), E13 IO_L7P_HDGC_87 (io), F12 IO_L5N_HDGC_87 (io), F13 IO_L6N_HDGC_87 (io), F14 IO_L6P_HDGC_87 (io), G12 IO_L5P_HDGC_87 (io), G14 IO_L3N_AD13N_87 (io), H12 IO_L1N_AD15N_87 (io), H13 IO_L2N_AD14N_87 (io), H14 IO_L3P_AD13P_87 (io), J12 IO_L1P_AD15P_87 (io), J13 IO_L2P_AD14P_87 (io), J14 IO_L4N_AD12N_87 (io), J15 IO_L4P_AD12P_87 (io)
part I pins: AB1 MGTYRXN3_224 (in), AB2 MGTYRXP3_224 (in), AB6 MGTREFCLK0N_224 (in), AB7 MGTREFCLK0P_224 (in), AC4 MGTYTXN3_224 (out), AC5 MGTYTXP3_224 (out), AD1 MGTYRXN2_224 (in), AD2 MGTYRXP2_224 (in), AD6 MGTYTXN2_224 (out), AD7 MGTYTXP2_224 (out), AD8 MGTAVTTRCAL_R, AD9 MGTRREF_R, AE3 MGTYRXN1_224 (in), AE4 MGTYRXP1_224 (in), AE8 MGTYTXN1_224 (out), AE9 MGTYTXP1_224 (out), AF1 MGTYRXN0_224 (in), AF2 MGTYRXP0_224 (in), AF6 MGTYTXN0_224 (out), AF7 MGTYTXP0_224 (out), Y6 MGTREFCLK1N_224 (in), Y7 MGTREFCLK1P_224 (in)
part J pins: AA4 MGTYTXN0_225 (out), AA5 MGTYTXP0_225 (out), P1 MGTYRXN3_225 (in), P2 MGTYRXP3_225 (in), R4 MGTYTXN3_225 (out), R5 MGTYTXP3_225 (out), T1 MGTYRXN2_225 (in), T2 MGTYRXP2_225 (in), T6 MGTREFCLK1N_225 (in), T7 MGTREFCLK1P_225 (in), U4 MGTYTXN2_225 (out), U5 MGTYTXP2_225 (out), V1 MGTYRXN1_225 (in), V2 MGTYRXP1_225 (in), V6 MGTREFCLK0N_225 (in), V7 MGTREFCLK0P_225 (in), W4 MGTYTXN1_225 (out), W5 MGTYTXP1_225 (out), Y1 MGTYRXN0_225 (in), Y2 MGTYRXP0_225 (in)
part K pins: F1 MGTYRXN3_226 (in), F2 MGTYRXP3_226 (in), G4 MGTYTXN3_226 (out), G5 MGTYTXP3_226 (out), H1 MGTYRXN2_226 (in), H2 MGTYRXP2_226 (in), J4 MGTYTXN2_226 (out), J5 MGTYTXP2_226 (out), K1 MGTYRXN1_226 (in), K2 MGTYRXP1_226 (in), L4 MGTYTXN1_226 (out), L5 MGTYTXP1_226 (out), M1 MGTYRXN0_226 (in), M2 MGTYRXP0_226 (in), M6 MGTREFCLK1N_226 (in), M7 MGTREFCLK1P_226 (in), N4 MGTYTXN0_226 (out), N5 MGTYTXP0_226 (out), P6 MGTREFCLK0N_226 (in), P7 MGTREFCLK0P_226 (in)
part L pins: A3 MGTYRXN3_227 (in), A4 MGTYRXP3_227 (in), B1 MGTYRXN2_227 (in), B2 MGTYRXP2_227 (in), B6 MGTYTXN3_227 (out), B7 MGTYTXP3_227 (out), C3 MGTYRXN1_227 (in), C4 MGTYRXP1_227 (in), D1 MGTYRXN0_227 (in), D2 MGTYRXP0_227 (in), D6 MGTYTXN2_227 (out), D7 MGTYTXP2_227 (out), E4 MGTYTXN1_227 (out), E5 MGTYTXP1_227 (out), F6 MGTYTXN0_227 (out), F7 MGTYTXP0_227 (out), H6 MGTREFCLK1N_227 (in), H7 MGTREFCLK1P_227 (in), K6 MGTREFCLK0N_227 (in), K7 MGTREFCLK0P_227 (in)
part M pins: A7 MGTAVTT_R (power), AA7 MGTAVCC_R (power), AB5 MGTAVTT_R (power), AC7 MGTAVCC_R (power), AE7 MGTAVTT_R (power), C7 MGTAVTT_R (power), E7 MGTAVTT_R (power), F5 MGTAVTT_R (power), G7 MGTAVTT_R (power), H5 MGTAVTT_R (power), J7 MGTAVCC_R (power), K5 MGTAVTT_R (power), L7 MGTAVCC_R (power), M5 MGTAVTT_R (power), N7 MGTAVCC_R (power), P5 MGTAVTT_R (power), R7 MGTVCCAUX_R (power), T5 MGTAVTT_R (power), U7 MGTVCCAUX_R (power), V5 MGTAVTT_R (power), W7 MGTAVCC_R (power), Y5 MGTAVTT_R (power)
part N pins: AA11 VCCO_0 (power), AA21 VCCO_64 (power), AB18 VCCO_64 (power), AC15 VCCO_84 (power), AD12 VCCO_0 (power), AD22 VCCO_64 (power), C20 VCCO_67 (power), D17 VCCO_67 (power), E9 VCCO_86 (power), E14 VCCO_87 (power), E24 VCCO_66 (power), G18 VCCO_67 (power), H10 VCCO_86 (power), H15 VCCO_87 (power), H25 VCCO_66 (power), J22 VCCO_66 (power), P22 VCCO_65 (power), U23 VCCO_65 (power), Y14 VCCO_84 (power), Y24 VCCO_65 (power)
part O pins: K11 VCCINT (power), K13 VCCINT (power), K15 VCCINT (power), K17 VCCINT (power), L9 VCCINT_IO (power), L10 VCCINT (power), L12 VCCINT (power), L14 VCCINT (power), L16 VCCINT (power), M9 VCCINT_IO (power), M11 VCCINT (power), M13 VCCINT (power), M15 VCCINT (power), M17 VCCINT (power), M18 VCCAUX (power), N9 VCCINT_IO (power), N10 VCCINT (power), N12 VCCINT (power), N16 VCCINT (power), N18 VCCAUX (power), P9 VCCINT_IO (power), P11 VCCINT (power), P15 VCCINT (power), P17 VCCINT (power), P18 VCCAUX_IO (power), R9 VCCBRAM (power), R10 VCCINT (power), R12 VCCINT (power), R16 VCCINT (power), R18 VCCAUX_IO (power), T9 VCCBRAM (power), T11 VCCINT (power), T15 VCCINT (power), T17 VCCINT (power), T18 VCCAUX_IO (power), U9 VCCBRAM (power), U10 VCCINT (power), U12 VCCINT (power), U14 VCCINT (power), U16 VCCINT (power), V9 VCCBRAM (power), V11 VCCINT (power), V13 VCCINT (power), V15 VCCINT (power), V17 VCCINT (power)
part P pins: A1 GND, A2 GND, A5 GND, A6 GND, A8 GND, A11 GND, A16 GND, A21 GND, A26 GND, AA1 GND, AA2 GND, AA3 GND, AA6 GND, AA8 GND, AA16 GND, AA26 GND, AB3 GND, AB4 GND, AB8 GND, AB13 GND, AB23 GND, AC1 GND, AC2 GND, AC3 GND, AC6 GND, AC8 GND, AC9 GND, AC10 GND, AC20 GND, AC25 GND, AD3 GND, AD4 GND, AD5 GND, AD10 GND, AD17 GND, AE1 GND, AE2 GND, AE5 GND, AE6 GND, AE10 GND, AE14 GND, AE19 GND, AE24 GND, AF3 GND, AF4 GND, AF5 GND, AF8 GND, AF9 GND, AF10 GND, AF11 GND, AF16 GND, AF21 GND, AF26 GND, B3 GND, B4 GND, B5 GND, B8 GND, B13 GND, B18 GND, B23 GND, C1 GND, C2 GND, C5 GND, C6 GND, C8 GND, C10 GND, C15 GND, C25 GND, D3 GND, D4 GND, D5 GND, D8 GND, D12 GND, D22 GND, E1 GND, E2 GND, E3 GND, E6 GND, E8 GND, E19 GND, F3 GND, F4 GND, F8 GND, F11 GND, F16 GND, F21 GND, F26 GND, G1 GND, G2 GND, G3 GND, G6 GND, G8 GND, G13 GND, G23 GND, H3 GND, H4 GND, H8 GND, H20 GND
part Q pins: J1 GND, J2 GND, J3 GND, J6 GND, J8 GND, J17 GND, K3 GND, K4 GND, K8 GND, K12 GND, K14 GND, K16 GND, K19 GND, K24 GND, L1 GND, L2 GND, L3 GND, L6 GND, L8 GND, L11 GND, L13 GND, L15 GND, L17 GND, L21 GND, L26 GND, M3 GND, M4 GND, M8 GND, M10 GND, M12 GND, M14 GND, M16 GND, M23 GND, N1 GND, N2 GND, N3 GND, N6 GND, N8 GND, N11 GND, N15 GND, N17 GND, N20 GND, N25 GND, P3 GND, P4 GND, P8 GND, P10 GND, P12 GND, P16 GND, R1 GND, R2 GND, R3 GND, R6 GND, R8 GND, R11 GND, R15 GND, R17 GND, R19 GND, R24 GND, T3 GND, T4 GND, T8 GND, T10 GND, T12 GND, T16 GND, T21 GND, T26 GND, U1 GND, U2 GND, U3 GND, U6 GND, U8 GND, U11 GND, U13 GND, U15 GND, U17 GND, U18 GND, V3 GND, V4 GND, V8 GND, V10 GND, V12 GND, V14 GND, V16 GND, V20 GND, V25 GND, W1 GND, W2 GND, W3 GND, W6 GND, W8 GND, W17 GND, W22 GND, Y3 GND, Y4 GND, Y8 GND, Y19 GND
part A text: Xilinx Kintex Ultrascale Plus XCKU5P-2FFVB676I; BANK 0
part B text: Xilinx Kintex Ultrascale Plus XCKU5P-2FFVB676I; BANK 64 HP
part C text: Xilinx Kintex Ultrascale Plus XCKU5P-2FFVB676I; BANK 65 HP
part D text: Xilinx Kintex Ultrascale Plus XCKU5P-2FFVB676I; BANK 66 HP
part E text: Xilinx Kintex Ultrascale Plus XCKU5P-2FFVB676I; BANK 67 HP
part F text: Xilinx Kintex Ultrascale Plus XCKU5P-2FFVB676I; BANK 84 HD
part G text: Xilinx Kintex Ultrascale Plus XCKU5P-2FFVB676I; BANK 86 HD
part H text: Xilinx Kintex Ultrascale Plus XCKU5P-2FFVB676I; BANK 87 HD
part I text: Xilinx Kintex Ultrascale Plus XCKU5P-2FFVB676I; BANK 224 GTY
part J text: Xilinx Kintex Ultrascale Plus XCKU5P-2FFVB676I; BANK 225 GTY
part K text: Xilinx Kintex Ultrascale Plus XCKU5P-2FFVB676I; BANK 226 GTY
part L text: Xilinx Kintex Ultrascale Plus XCKU5P-2FFVB676I; BANK 227 GTY
part M text: Xilinx Kintex Ultrascale Plus XCKU5P-2FFVB676I; MGTY Power
part N text: Xilinx Kintex Ultrascale Plus XCKU5P-2FFVB676I; I/O Power
part O text: Xilinx Kintex Ultrascale Plus XCKU5P-2FFVB676I; Power
part P text: Xilinx Kintex Ultrascale Plus XCKU5P-2FFVB676I; Ground
part Q text: Xilinx Kintex Ultrascale Plus XCKU5P-2FFVB676I; Ground

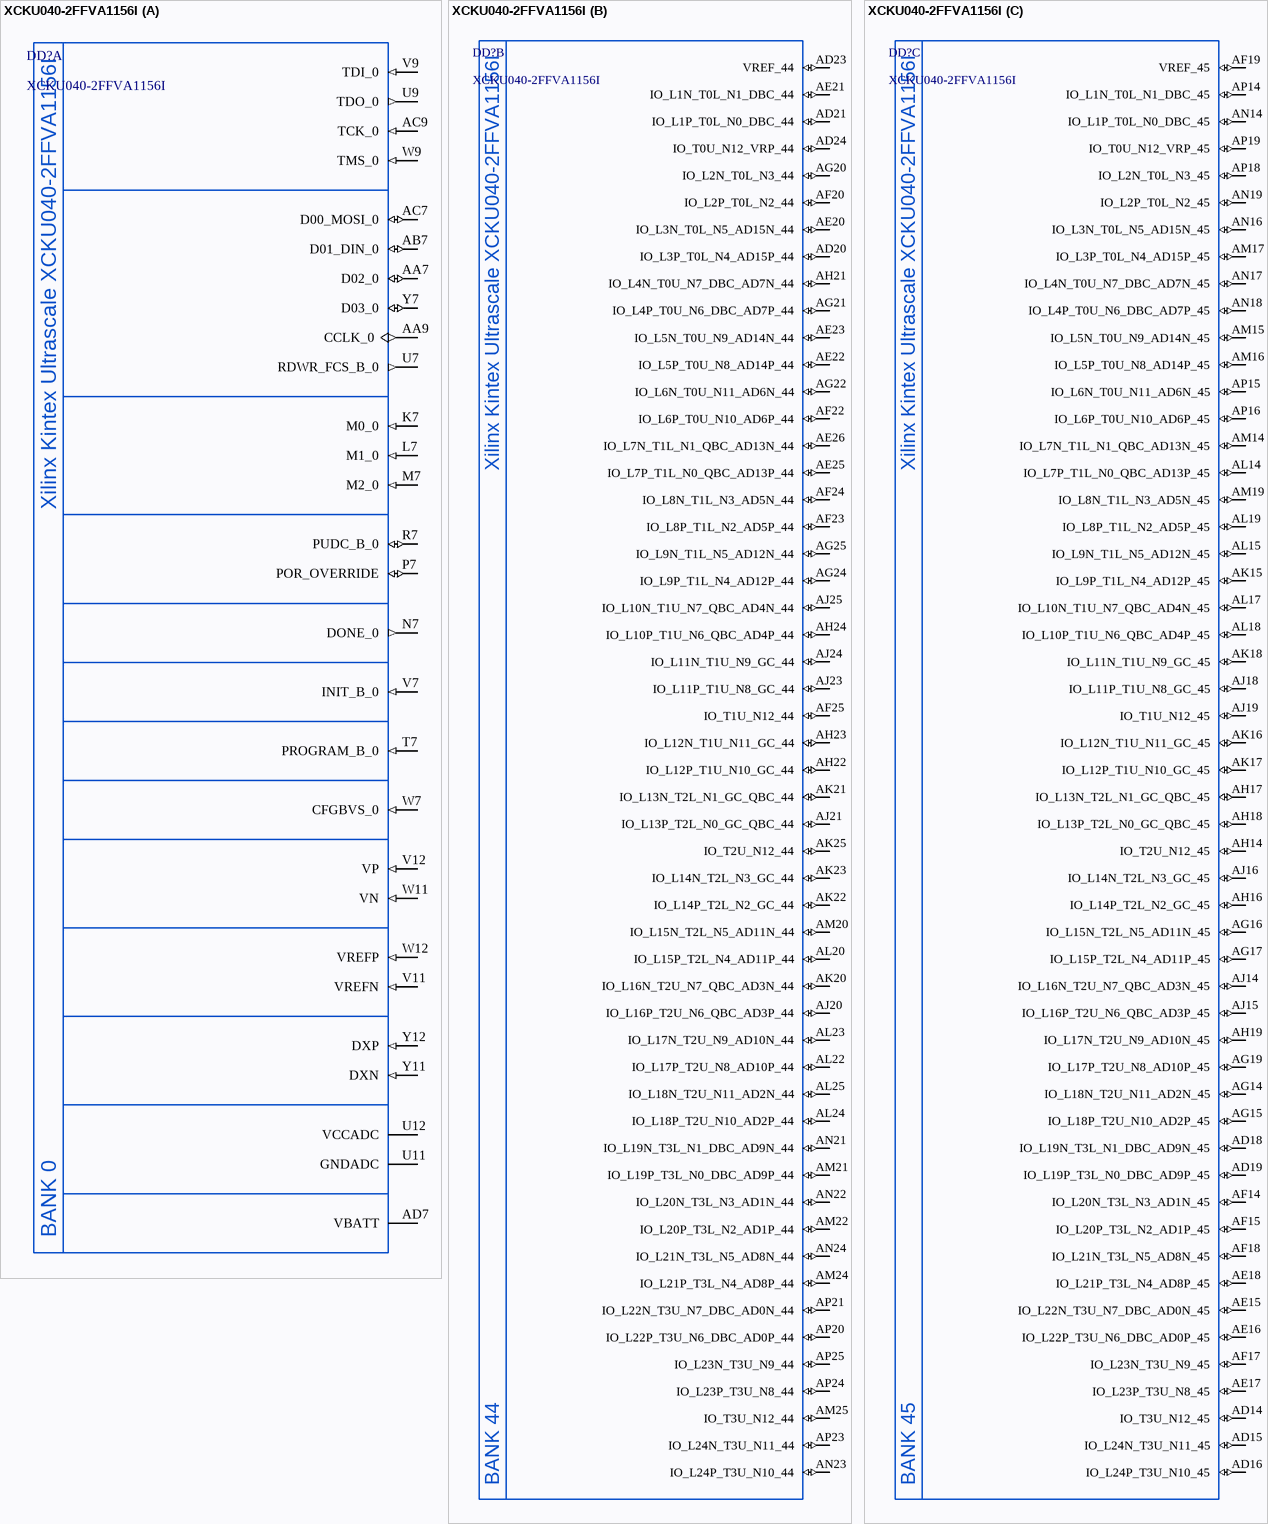
[diagram p55: symbol XCKU040-2FFVA1156I]

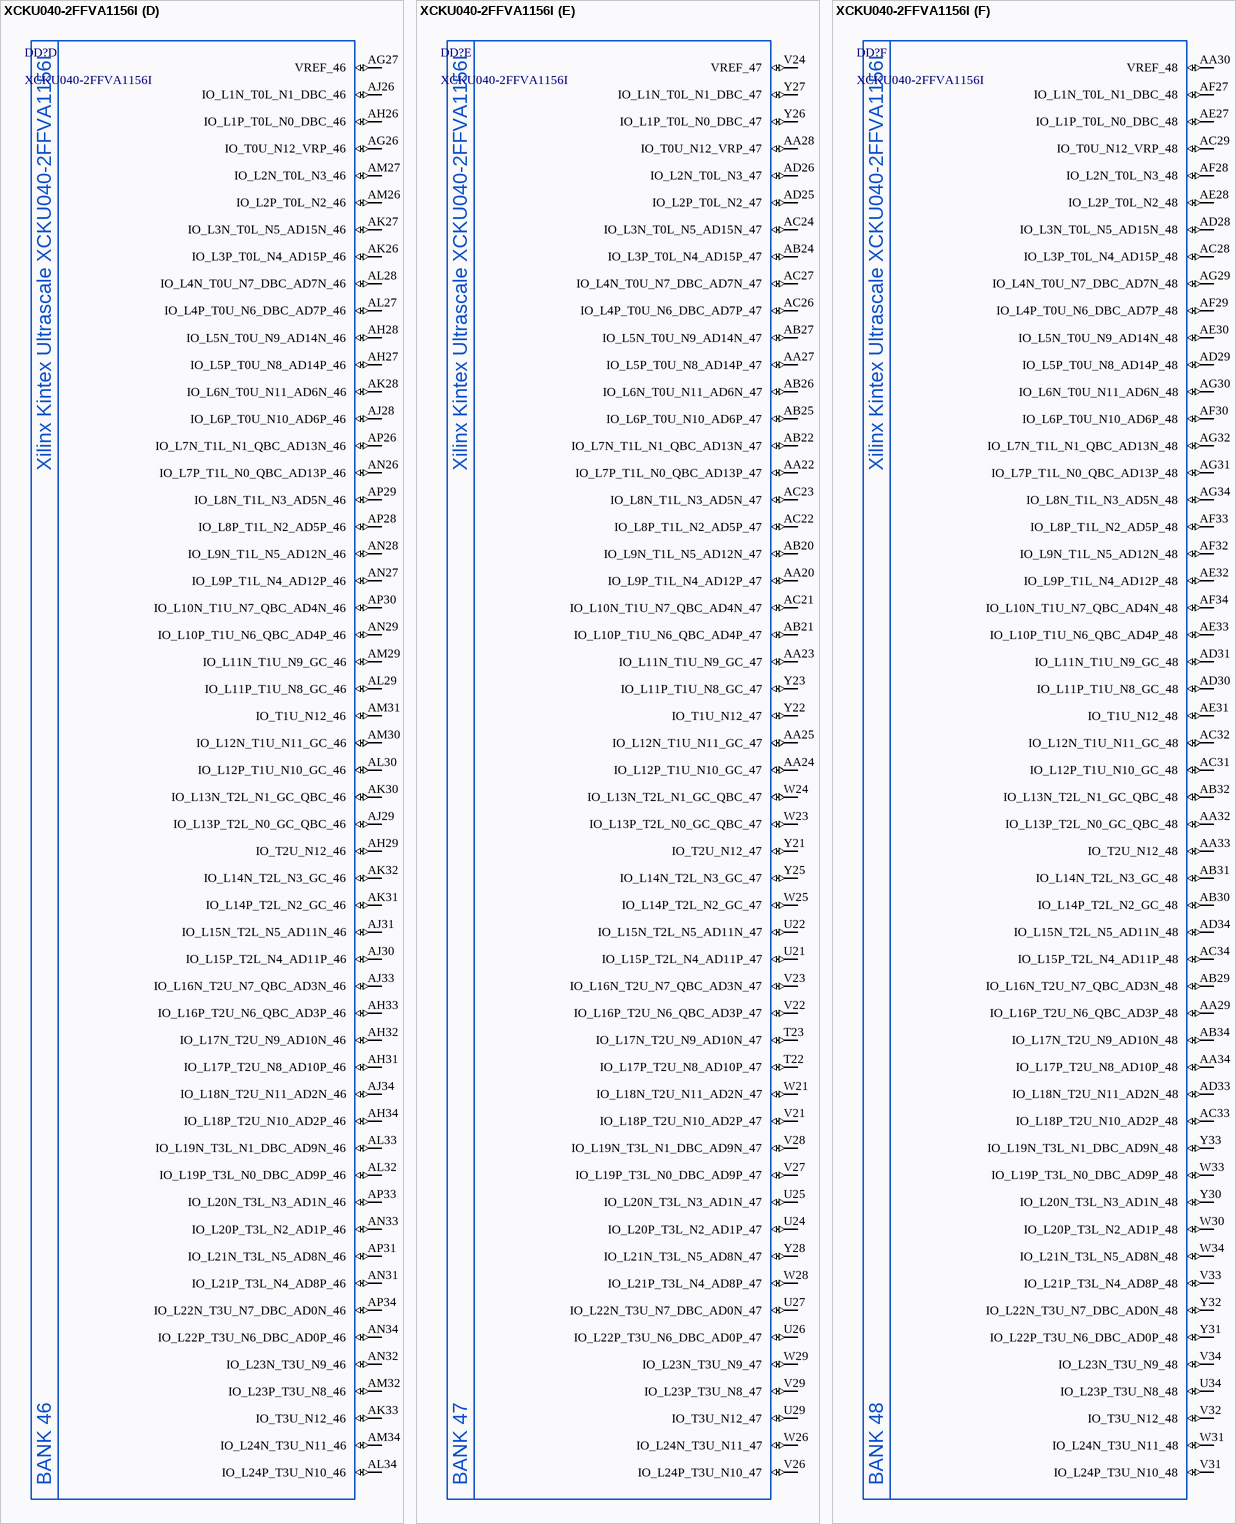
[diagram p56: symbol XCKU040-2FFVA1156I]

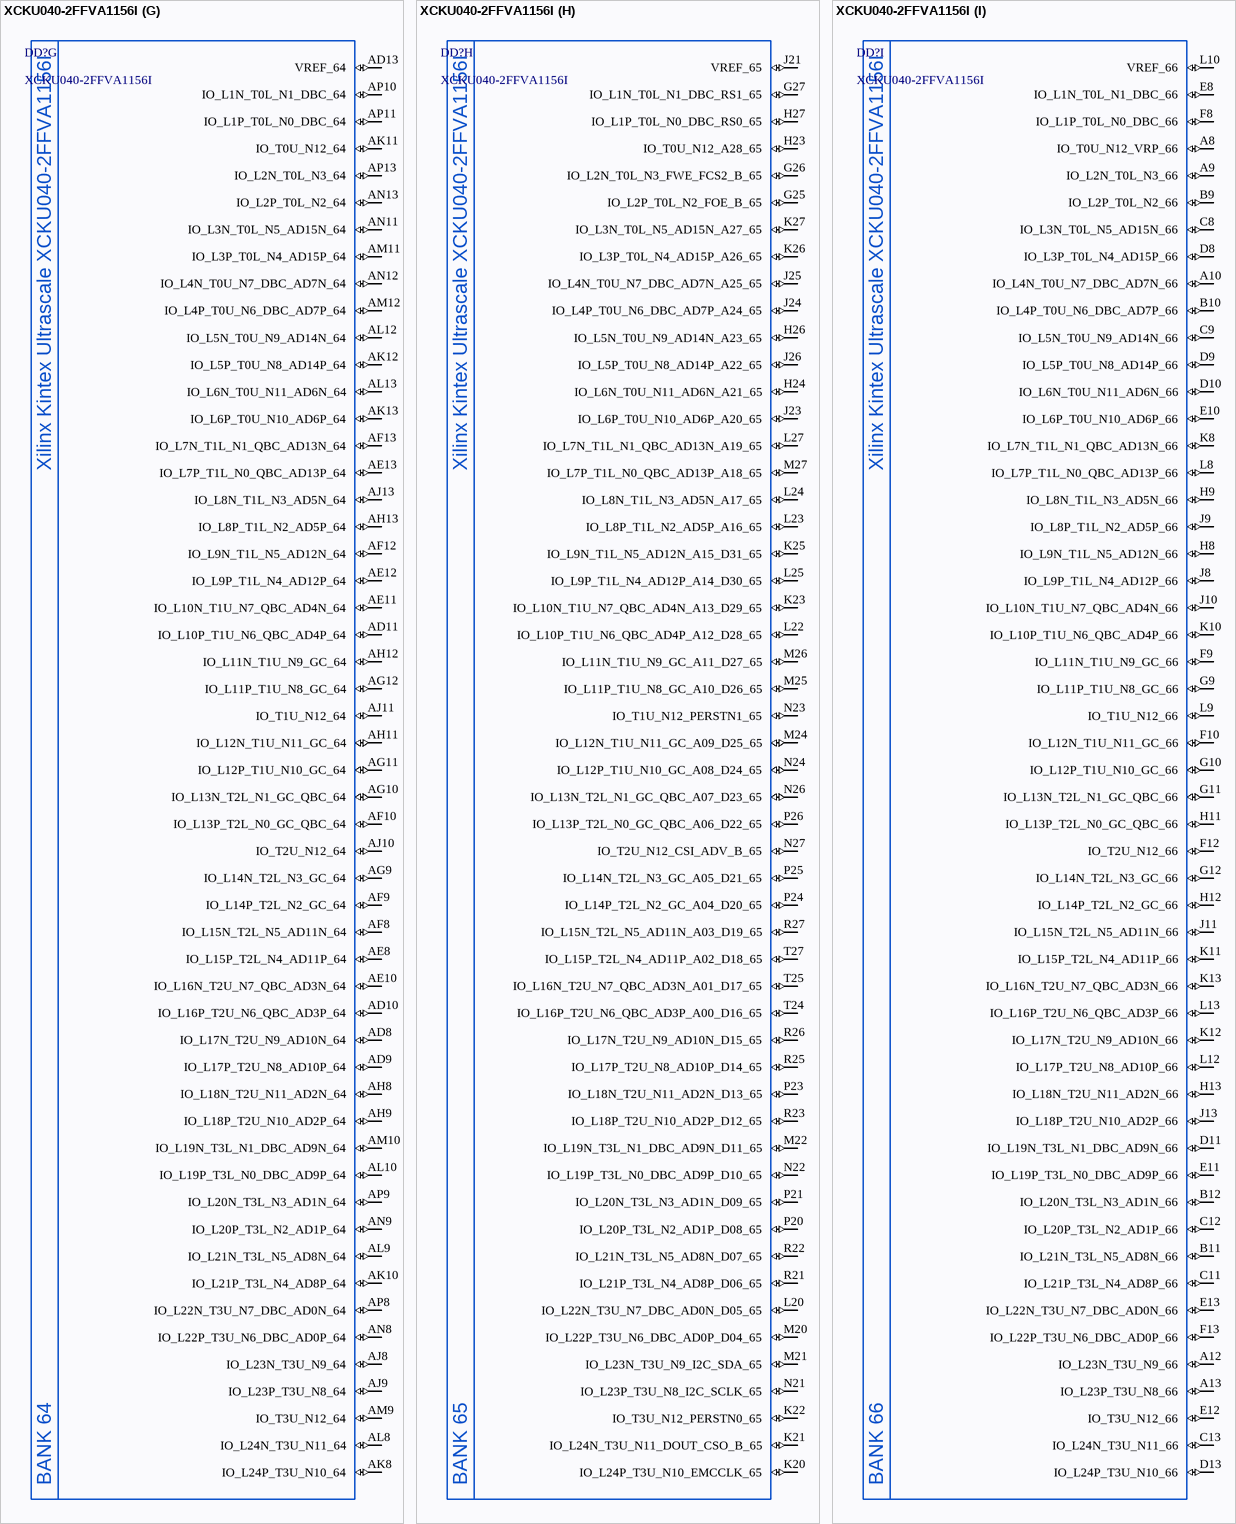
[diagram p57: symbol XCKU040-2FFVA1156I]

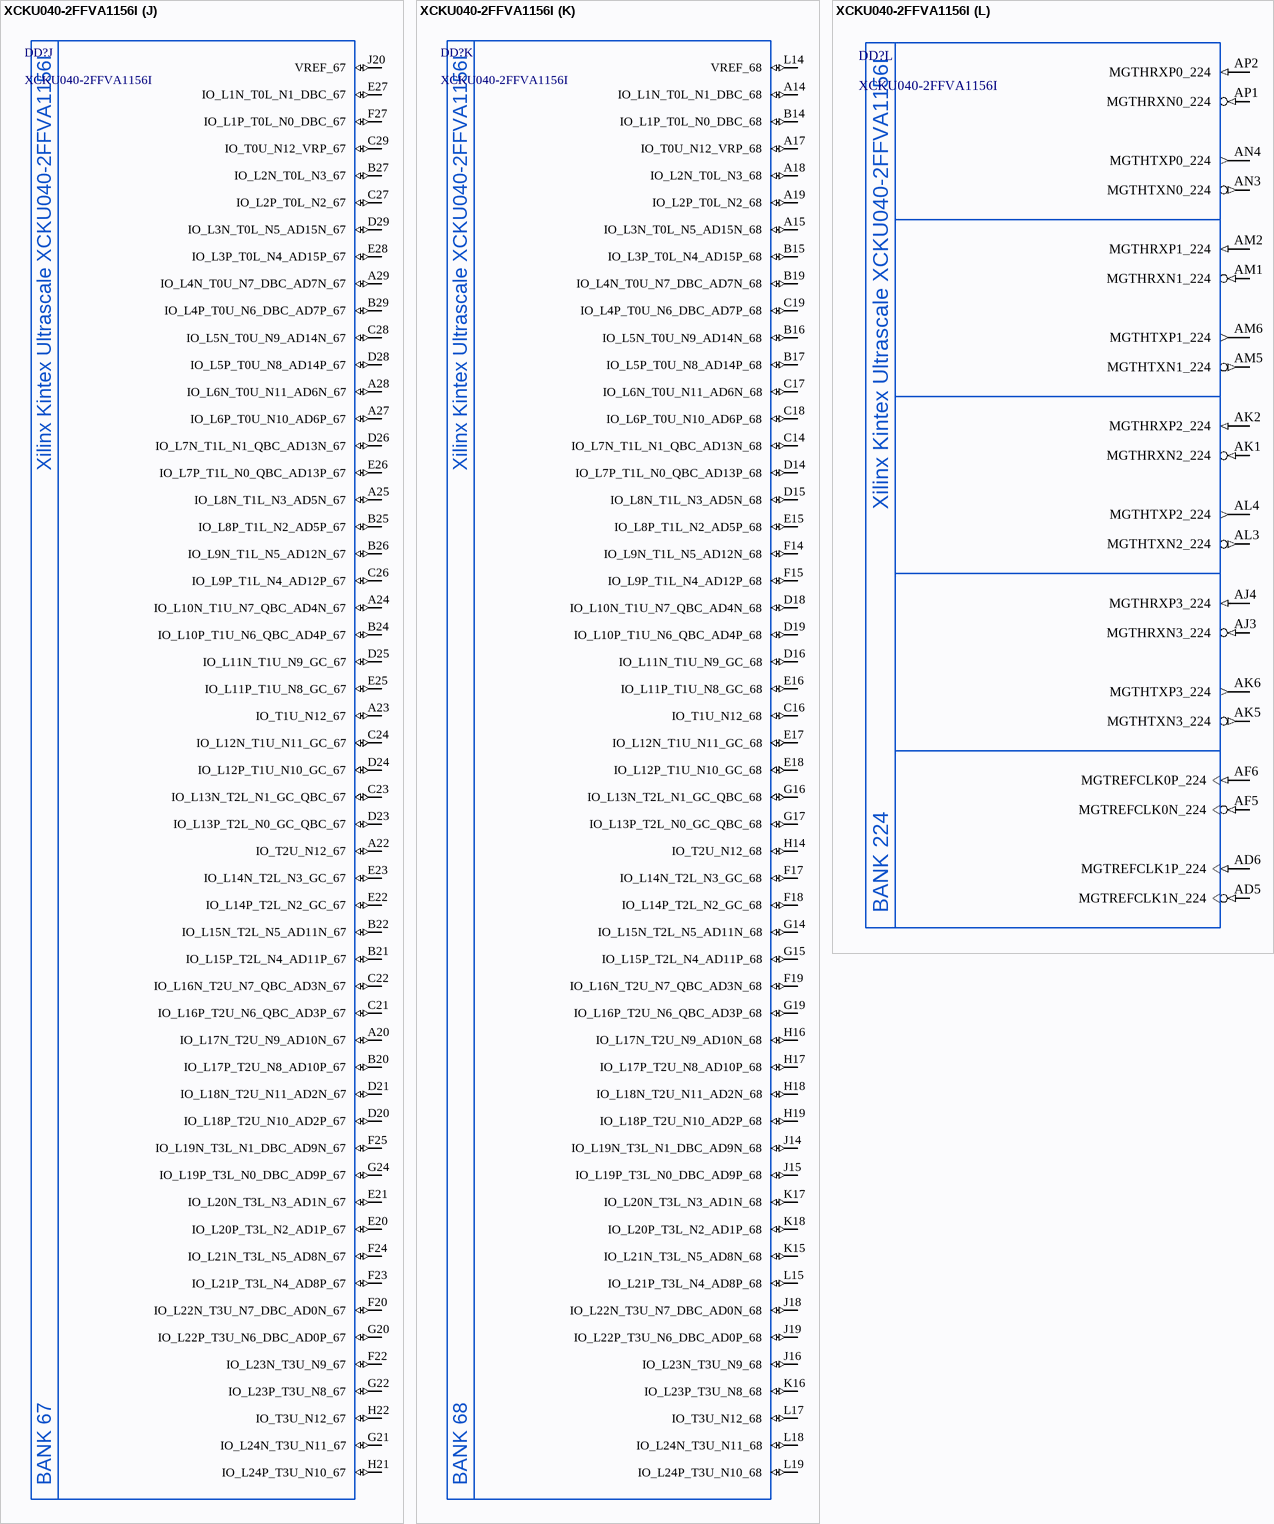
[diagram p58: symbol XCKU040-2FFVA1156I]

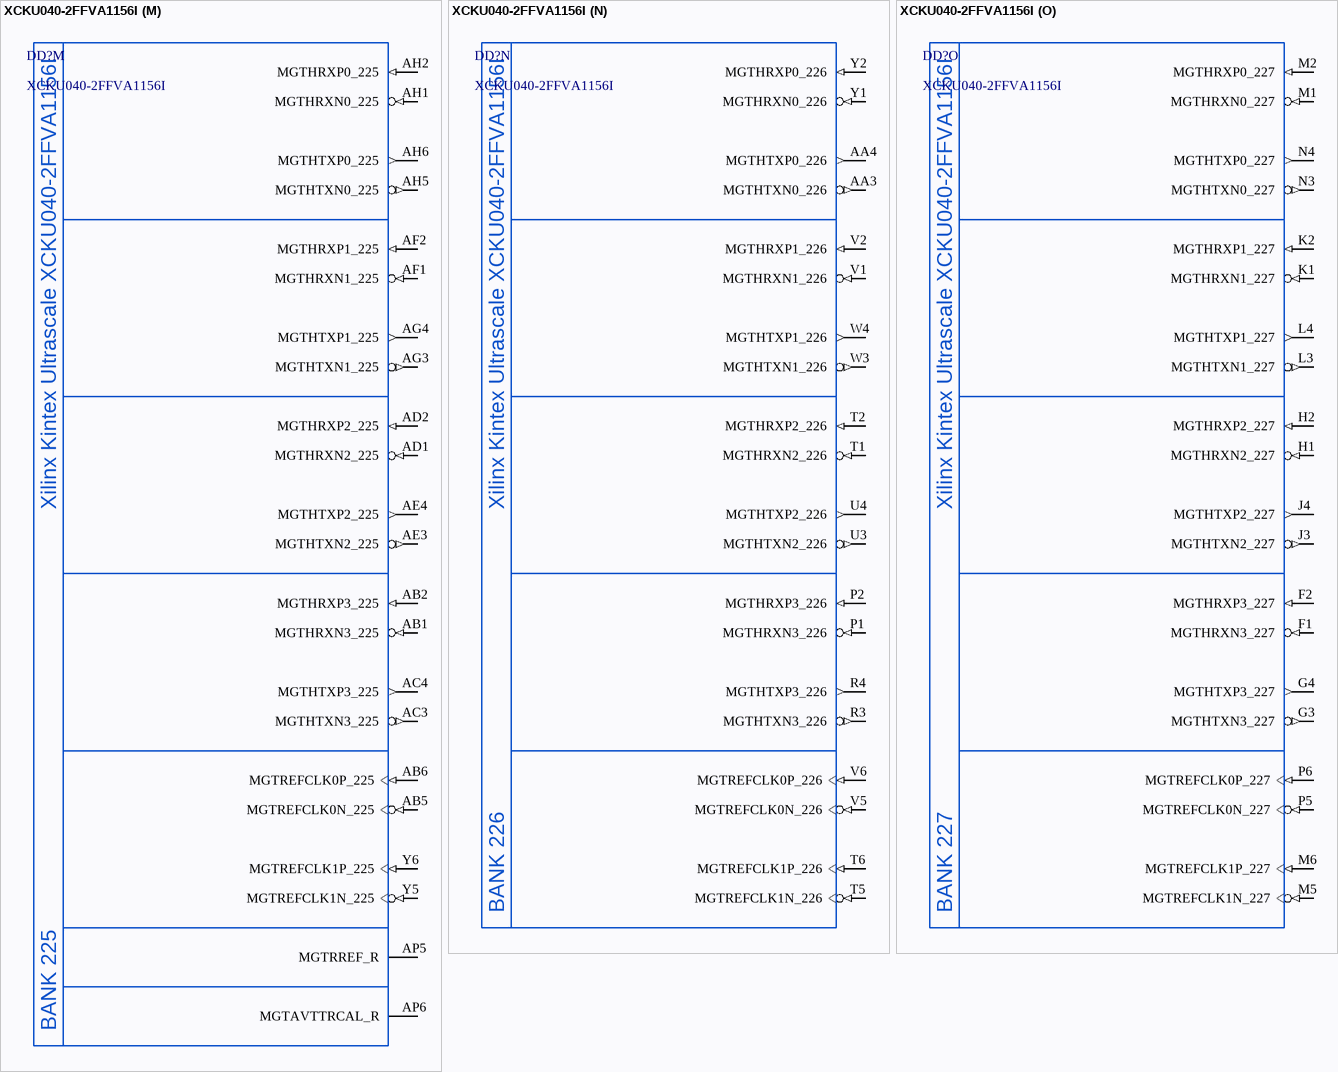
[diagram p59: symbol XCKU040-2FFVA1156I]

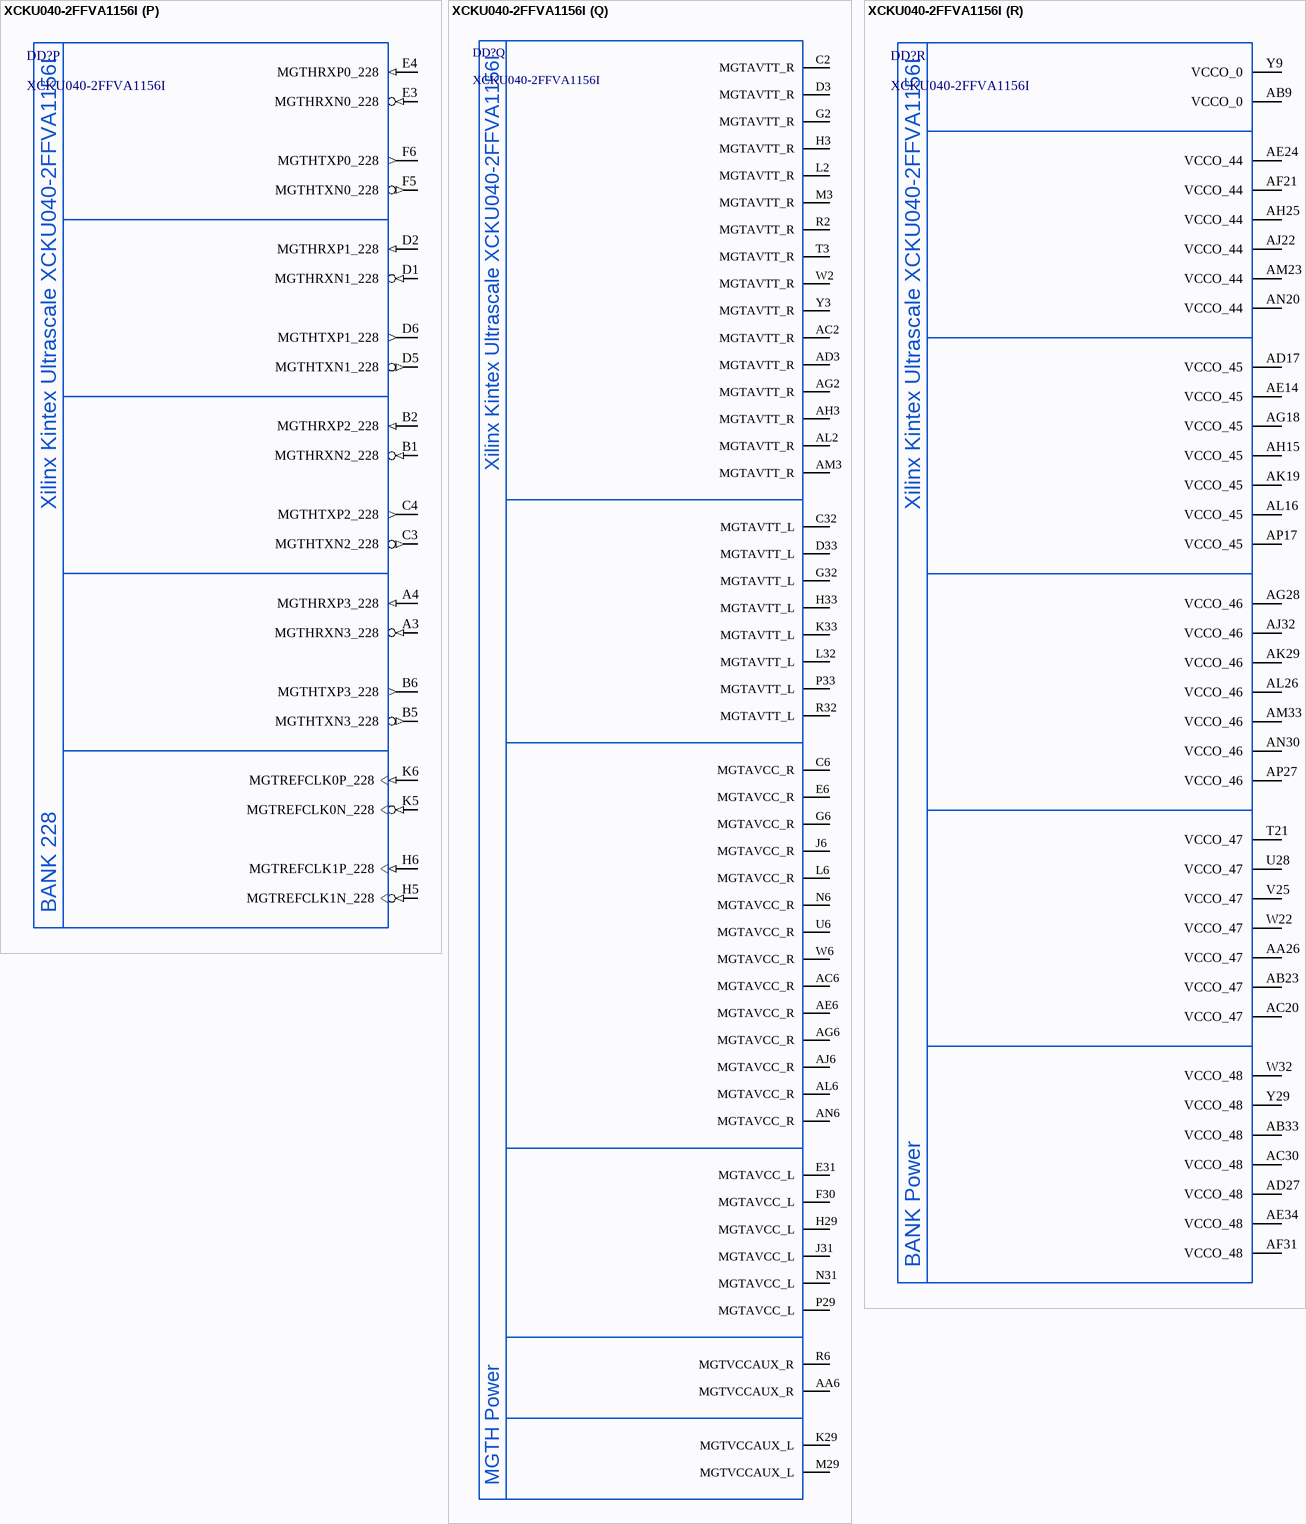
[diagram p60: symbol XCKU040-2FFVA1156I]

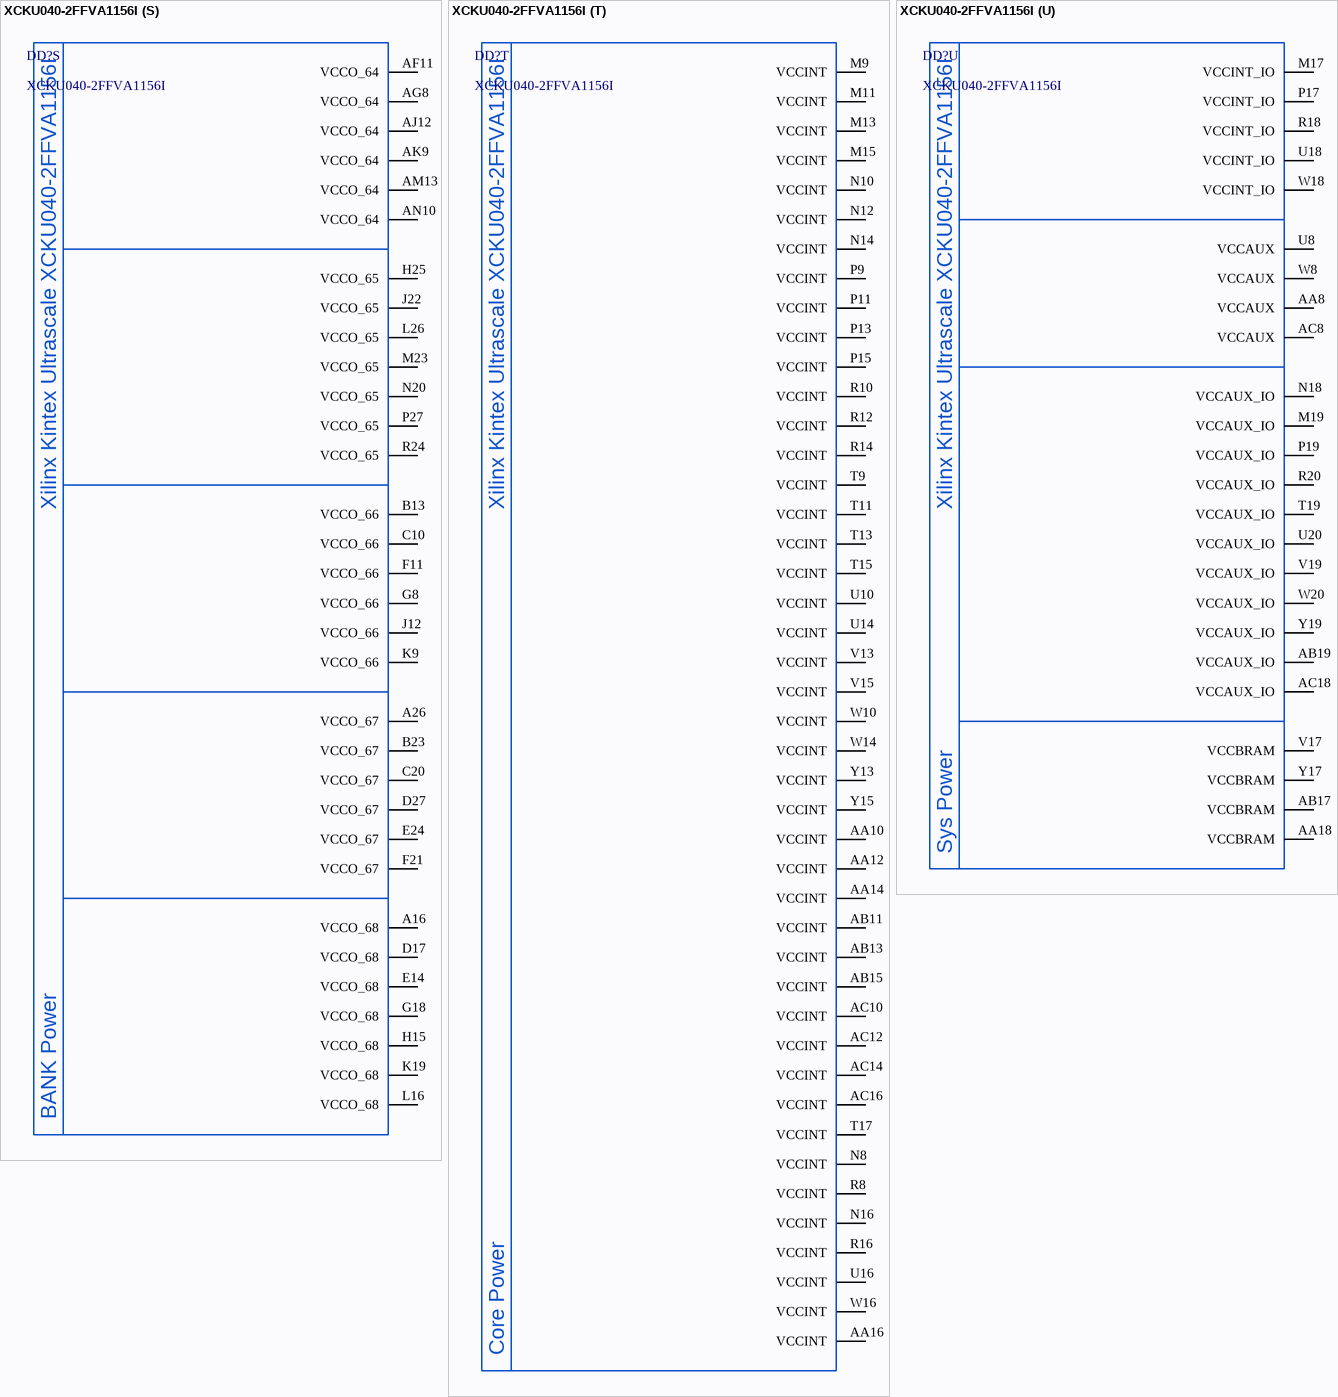
[diagram p61: symbol XCKU040-2FFVA1156I]

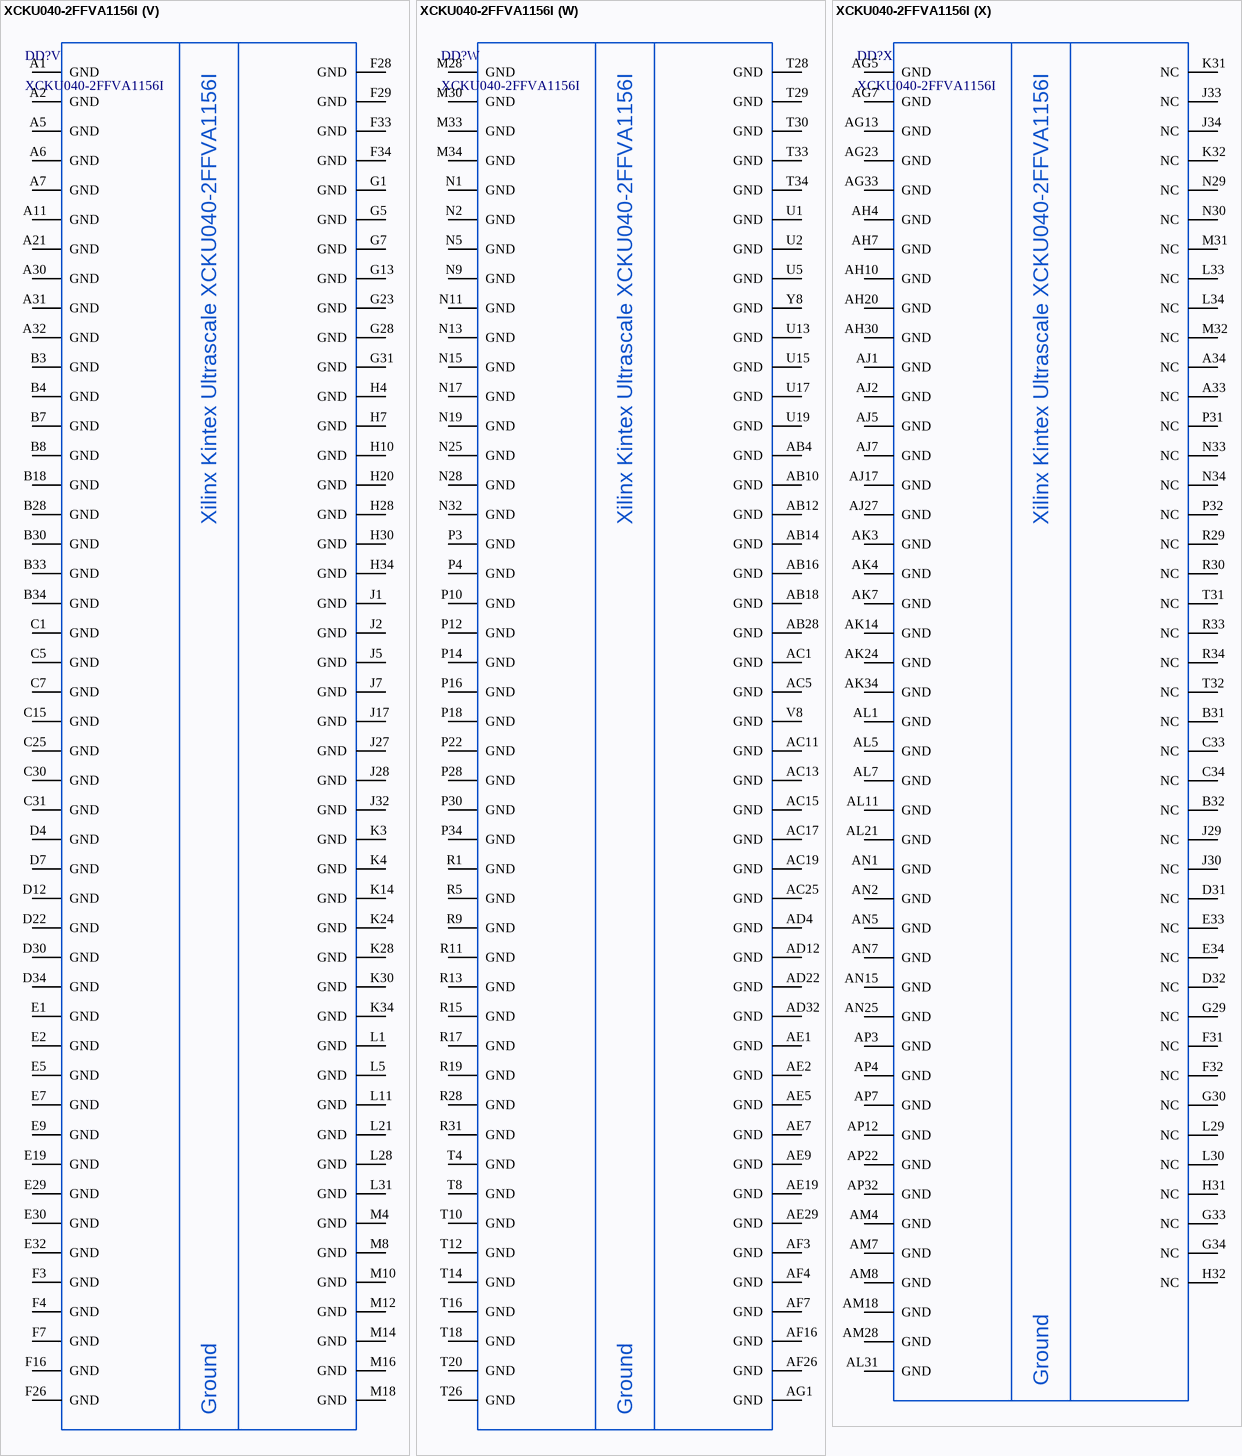
[diagram p62: symbol XCKU040-2FFVA1156I]